# Altium integrated library STMicroelectronics STM32 F3.IntLib: 37 symbols (part 1 of 5)
Pins are listed as number, name and electrical type; pins without a type are passive.

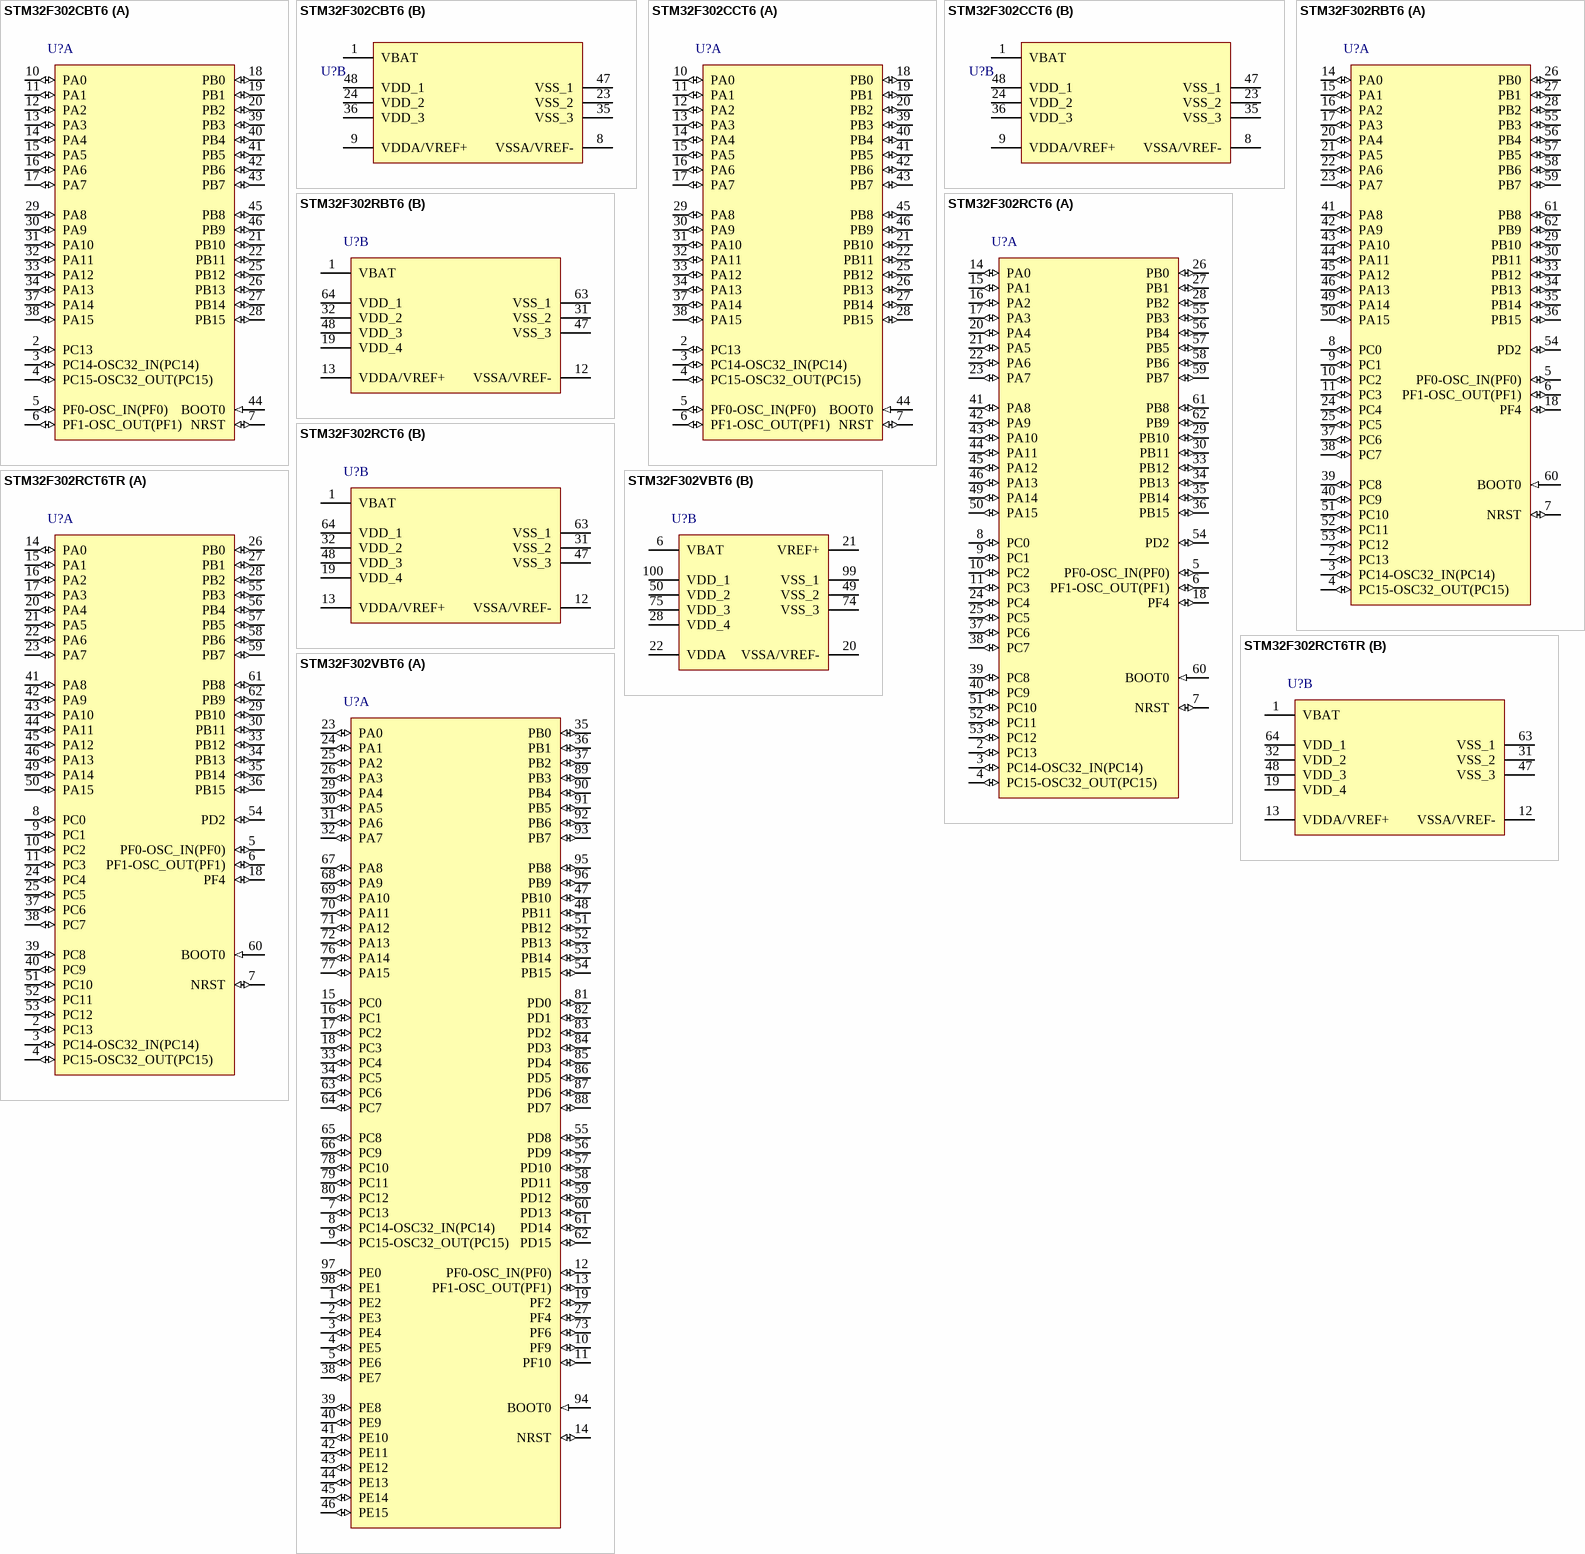
[diagram p0: symbols STM32F302CBT6 to STM32F302VBT6]

## STM32F302CBT6
designator U?
ARM Cortex-M4 32-bit MCU, 128 KB Flash, 24 KB Internal RAM, 37 I/Os, 48-pin LQFP, -40 to 85 degC, Tray
footprint STM-LQFP48_N (QFP, 48-Leads, Body 7x7mm, Pitch 0.5mm, IPC Medium Density)
footprint STM-LQFP48_L (QFP, 48-Leads, Body 7x7mm, Pitch 0.5mm, IPC High Density)
footprint STM-LQFP48_M (QFP, 48-Leads, Body 7x7mm, Pitch 0.5mm, IPC Low Density)
part A pins: 2 PC13 (io) "PC13/TIM1_CH1N/WKUP2,RTC_TAMP1,RTC_TS,RTC_OUT", 3 PC14-OSC32_IN(PC14) (io) "PC14-OSC32_IN(PC14)/OSC32_IN", 4 PC15-OSC32_OUT(PC15) (io) "PC15-OSC32_OUT(PC15)/OSC32_OUT", 5 PF0-OSC_IN(PF0) (io) "PF0-OSC_IN(PF0)/TIM1_CH3N,I2C2_SDA/OSC_IN", 6 PF1-OSC_OUT(PF1) (io) "PF1-OSC_OUT(PF1)/I2C2_SCL/OSC_OUT", 7 NRST (io) "Device reset input / internal reset output (active low)", 10 PA0 (io) "PA0/USART2_CTS,TIM2_CH1_ETR,TSC_G1_IO1,COMP1_OUT,EVENTOUT/ADC1_IN1,COMP1_INM,RTC_TAMP2,WKUP1", 11 PA1 (io) "PA1/USART2_RTS,TIM2_CH2,TSC_G1_IO2,TIM15_CH1N,RTC_REFIN,EVENTOUT/ADC1_IN2,COMP1_INP,OPAMP1_VINP", 12 PA2 (io) "PA2/USART2_TX,TIM2_CH3,TIM15_CH1,TSC_G1_IO3,COMP2_OUT,EVENTOUT/ADC1_IN3,COMP2_INM,OPAMP1_VOUT", 13 PA3 (io) "PA3/USART2_RX,TIM2_CH4,TIM15_CH2,TSC_G1_IO4,EVENTOUT/ADC1_IN4,OPAMP1_VINP,COMP2_INP,OPAMP1_VINM", 14 PA4 (io) "PA4/SPI1_NSS,SPI3_NSS,USART2_CK,TSC_G2_IO1,TIM3_CH2,EVENTOUT/ADC2_IN1,DAC1_OUT1,COMP1_INM,COMP2_INM,COMP4_INM,COMP6_INM", 15 PA5 (io) "PA5/SPI1_SCK,TIM2_CH1_ETR,TSC_G2_IO2,EVENTOUT/ADC2_IN2,OPAMP1_VINP,OPAMP2_VINM,COMP1_INM,COMP2_INM,COMP4_INM,COMP6_INM", 16 PA6 (io) "PA6/SPI1_MISO,TIM3_CH1,TIM1_BKIN,TIM16_CH1,COMP1_OUT,TSC_G2_IO3,EVENTOUT/ADC2_IN3,OPAMP2_VOUT", 17 PA7 (io) "PA7/SPI1_MOSI,TIM3_CH2,TIM17_CH1,TIM1_CH1N,TSC_G2_IO4,COMP2_OUT,EVENTOUT/ADC2_IN4,COMP2_INP,OPAMP2_VINP,OPAMP1_VINP", 18 PB0 (io) "PB0/TIM3_CH3,TIM1_CH2N,TSC_G3_IO2,EVENTOUT/COMP4_INP,OPAMP2_VINP", 19 PB1 (io) "PB1/TIM3_CH4,TIM1_CH3N,COMP4_OUT,TSC_G3_IO3,EVENTOUT", 20 PB2 (io) "PB2/TSC_G3_IO4,EVENTOUT/ADC2_IN12,COMP4_INM", 21 PB10 (io) "PB10/USART3_TX,TIM2_CH3,TSC_SYNC,EVENTOUT", 22 PB11 (io) "PB11/USART3_RX,TIM2_CH4,TSC_G6_IO1,EVENTOUT/COMP6_INP", 25 PB12 (io) "PB12/SPI2_NSS,I2C2_SMBA,USART3_CK,TIM1_BKIN,TSC_G6_IO2,EVENTOUT", 26 PB13 (io) "PB13/SPI2_SCK,USART3_CTS,TIM1_CH1N,TSC_G6_IO3,EVENTOUT", 27 PB14 (io) "PB14/SPI2_MISO,USART3_RTS,TIM1_CH2N,TIM15_CH1,TSC_G6_IO4,EVENTOUT/OPAMP2_VINP", 28 PB15 (io) "PB15/SPI2_MOSI,TIM1_CH3N,RTC_REFIN,TIM15_CH1N,TIM15_CH2,EVENTOUT/COMP6_INM", 29 PA8 (io) "PA8/I2C2_SMBA,USART1_CK,TIM1_CH1,TIM4_ETR,MCO,EVENTOUT", 30 PA9 (io) "PA9/I2C2_SCL,USART1_TX,TIM1_CH2,TIM2_CH3,TIM15_BKIN,TSC_G4_IO1,EVENTOUT", 31 PA10 (io) "PA10/I2C2_SDA,USART1_RX,TIM1_CH3,TIM2_CH4,TIM17_BKIN,TSC_G4_IO2,COMP6_OUT,EVENTOUT", 32 PA11 (io) "PA11/USART1_CTS,USB_DM,CAN_RX,TIM1_CH1N,TIM1_CH4,TIM1_BKIN2,TIM4_CH1,COMP1_OUT,EVENTOUT", 33 PA12 (io) "PA12/USART1_RTS,USB_DP,CAN_TX,TIM1_CH2N,TIM1_ETR,TIM4_CH2,TIM16_CH1,COMP2_OUT,EVENTOUT", 34 PA13 (io) "PA13/USART3_CTS,TIM4_CH3,TIM16_CH1N,TSC_G4_IO3,IR_OUT,SWDIO-JTMS,EVENTOUT", 37 PA14 (io) "PA14/I2C1_SDA,USART2_TX,TIM1_BKIN,TSC_G4_IO4,SWCLK-JTCK,EVENTOUT", 38 PA15 (io) "PA15/I2C1_SCL,SPI1_NSS,SPI3_NSS,JTDI,USART2_RX,TIM1_BKIN,TIM2_CH1_ETR,EVENTOUT", 39 PB3 (io) "PB3/SPI3_SCK,SPI1_SCK,USART2_TX,TIM2_CH2,TIM3_ETR,TIM4_ETR,TSC_G5_IO1,JTDO-TRACESWO,EVENTOUT", 40 PB4 (io) "PB4/SPI3_MISO,SPI1_MISO,USART2_RX,TIM3_CH1,TIM16_CH1,TIM17_BKIN,TSC_G5_IO2,NJTRST,EVENTOUT", 41 PB5 (io) "PB5/SPI3_MOSI,SPI1_MOSI,I2C1_SMBA,USART2_CK,TIM16_BKIN,TIM3_CH2,TIM17_CH1,EVENTOUT", 42 PB6 (io) "PB6/I2C1_SCL,USART1_TX,TIM16_CH1N,TIM4_CH1,TSC_G5_IO3,EVENTOUT", 43 PB7 (io) "PB7/I2C1_SDA,USART1_RX,TIM3_CH4,TIM4_CH2,TIM17_CH1N,TSC_G5_IO4,EVENTOUT", 44 BOOT0 (in) "Boot memory selection", 45 PB8 (io) "PB8/I2C1_SCL,CAN_RX,TIM16_CH1,TIM4_CH3,TIM1_BKIN,TSC_SYNC,COMP1_OUT,EVENTOUT", 46 PB9 (io) "PB9/I2C1_SDA,CAN_TX,TIM17_CH1,TIM4_CH4,IR_OUT,COMP2_OUT,EVENTOUT"
part B pins: 1 VBAT (power) "Backup power supply", 8 VSSA/VREF- (power) "Analog ground/Negative reference voltage", 9 VDDA/VREF+ (power) "Analog power supply/Positive reference voltage", 23 VSS_2 (power) "Digital ground", 24 VDD_2 (power) "Digital power supply", 35 VSS_3 (power) "Ground", 36 VDD_3 (power) "Digital power supply", 47 VSS_1 (power) "Ground", 48 VDD_1 (power) "Digital power supply"

## STM32F302CCT6
designator U?
ARM Cortex-M4 32-bit MCU, 256 KB Flash, 32 KB Internal RAM, 37 I/Os, 48-pin LQFP, -40 to 85 degC, Tray
footprint STM-LQFP48_N (QFP, 48-Leads, Body 7x7mm, Pitch 0.5mm, IPC Medium Density)
footprint STM-LQFP48_L (QFP, 48-Leads, Body 7x7mm, Pitch 0.5mm, IPC High Density)
footprint STM-LQFP48_M (QFP, 48-Leads, Body 7x7mm, Pitch 0.5mm, IPC Low Density)
part A pins: 2 PC13 (io) "PC13/TIM1_CH1N/WKUP2,RTC_TAMP1,RTC_TS,RTC_OUT", 3 PC14-OSC32_IN(PC14) (io) "PC14-OSC32_IN(PC14)/OSC32_IN", 4 PC15-OSC32_OUT(PC15) (io) "PC15-OSC32_OUT(PC15)/OSC32_OUT", 5 PF0-OSC_IN(PF0) (io) "PF0-OSC_IN(PF0)/TIM1_CH3N,I2C2_SDA/OSC_IN", 6 PF1-OSC_OUT(PF1) (io) "PF1-OSC_OUT(PF1)/I2C2_SCL/OSC_OUT", 7 NRST (io) "Device reset input / internal reset output (active low)", 10 PA0 (io) "PA0/USART2_CTS,TIM2_CH1_ETR,TSC_G1_IO1,COMP1_OUT,EVENTOUT/ADC1_IN1,COMP1_INM,RTC_TAMP2,WKUP1", 11 PA1 (io) "PA1/USART2_RTS,TIM2_CH2,TSC_G1_IO2,TIM15_CH1N,RTC_REFIN,EVENTOUT/ADC1_IN2,COMP1_INP,OPAMP1_VINP", 12 PA2 (io) "PA2/USART2_TX,TIM2_CH3,TIM15_CH1,TSC_G1_IO3,COMP2_OUT,EVENTOUT/ADC1_IN3,COMP2_INM,OPAMP1_VOUT", 13 PA3 (io) "PA3/USART2_RX,TIM2_CH4,TIM15_CH2,TSC_G1_IO4,EVENTOUT/ADC1_IN4,OPAMP1_VINP,COMP2_INP,OPAMP1_VINM", 14 PA4 (io) "PA4/SPI1_NSS,SPI3_NSS,USART2_CK,TSC_G2_IO1,TIM3_CH2,EVENTOUT/ADC2_IN1,DAC1_OUT1,COMP1_INM,COMP2_INM,COMP4_INM,COMP6_INM", 15 PA5 (io) "PA5/SPI1_SCK,TIM2_CH1_ETR,TSC_G2_IO2,EVENTOUT/ADC2_IN2,OPAMP1_VINP,OPAMP2_VINM,COMP1_INM,COMP2_INM,COMP4_INM,COMP6_INM", 16 PA6 (io) "PA6/SPI1_MISO,TIM3_CH1,TIM1_BKIN,TIM16_CH1,COMP1_OUT,TSC_G2_IO3,EVENTOUT/ADC2_IN3,OPAMP2_VOUT", 17 PA7 (io) "PA7/SPI1_MOSI,TIM3_CH2,TIM17_CH1,TIM1_CH1N,TSC_G2_IO4,COMP2_OUT,EVENTOUT/ADC2_IN4,COMP2_INP,OPAMP2_VINP,OPAMP1_VINP", 18 PB0 (io) "PB0/TIM3_CH3,TIM1_CH2N,TSC_G3_IO2,EVENTOUT/COMP4_INP,OPAMP2_VINP", 19 PB1 (io) "PB1/TIM3_CH4,TIM1_CH3N,COMP4_OUT,TSC_G3_IO3,EVENTOUT", 20 PB2 (io) "PB2/TSC_G3_IO4,EVENTOUT/ADC2_IN12,COMP4_INM", 21 PB10 (io) "PB10/USART3_TX,TIM2_CH3,TSC_SYNC,EVENTOUT", 22 PB11 (io) "PB11/USART3_RX,TIM2_CH4,TSC_G6_IO1,EVENTOUT/COMP6_INP", 25 PB12 (io) "PB12/SPI2_NSS,I2C2_SMBA,USART3_CK,TIM1_BKIN,TSC_G6_IO2,EVENTOUT", 26 PB13 (io) "PB13/SPI2_SCK,USART3_CTS,TIM1_CH1N,TSC_G6_IO3,EVENTOUT", 27 PB14 (io) "PB14/SPI2_MISO,USART3_RTS,TIM1_CH2N,TIM15_CH1,TSC_G6_IO4,EVENTOUT/OPAMP2_VINP", 28 PB15 (io) "PB15/SPI2_MOSI,TIM1_CH3N,RTC_REFIN,TIM15_CH1N,TIM15_CH2,EVENTOUT/COMP6_INM", 29 PA8 (io) "PA8/I2C2_SMBA,USART1_CK,TIM1_CH1,TIM4_ETR,MCO,EVENTOUT", 30 PA9 (io) "PA9/I2C2_SCL,USART1_TX,TIM1_CH2,TIM2_CH3,TIM15_BKIN,TSC_G4_IO1,EVENTOUT", 31 PA10 (io) "PA10/I2C2_SDA,USART1_RX,TIM1_CH3,TIM2_CH4,TIM17_BKIN,TSC_G4_IO2,COMP6_OUT,EVENTOUT", 32 PA11 (io) "PA11/USART1_CTS,USB_DM,CAN_RX,TIM1_CH1N,TIM1_CH4,TIM1_BKIN2,TIM4_CH1,COMP1_OUT,EVENTOUT", 33 PA12 (io) "PA12/USART1_RTS,USB_DP,CAN_TX,TIM1_CH2N,TIM1_ETR,TIM4_CH2,TIM16_CH1,COMP2_OUT,EVENTOUT", 34 PA13 (io) "PA13/USART3_CTS,TIM4_CH3,TIM16_CH1N,TSC_G4_IO3,IR_OUT,SWDIO-JTMS,EVENTOUT", 37 PA14 (io) "PA14/I2C1_SDA,USART2_TX,TIM1_BKIN,TSC_G4_IO4,SWCLK-JTCK,EVENTOUT", 38 PA15 (io) "PA15/I2C1_SCL,SPI1_NSS,SPI3_NSS,JTDI,USART2_RX,TIM1_BKIN,TIM2_CH1_ETR,EVENTOUT", 39 PB3 (io) "PB3/SPI3_SCK,SPI1_SCK,USART2_TX,TIM2_CH2,TIM3_ETR,TIM4_ETR,TSC_G5_IO1,JTDO-TRACESWO,EVENTOUT", 40 PB4 (io) "PB4/SPI3_MISO,SPI1_MISO,USART2_RX,TIM3_CH1,TIM16_CH1,TIM17_BKIN,TSC_G5_IO2,NJTRST,EVENTOUT", 41 PB5 (io) "PB5/SPI3_MOSI,SPI1_MOSI,I2C1_SMBA,USART2_CK,TIM16_BKIN,TIM3_CH2,TIM17_CH1,EVENTOUT", 42 PB6 (io) "PB6/I2C1_SCL,USART1_TX,TIM16_CH1N,TIM4_CH1,TSC_G5_IO3,EVENTOUT", 43 PB7 (io) "PB7/I2C1_SDA,USART1_RX,TIM3_CH4,TIM4_CH2,TIM17_CH1N,TSC_G5_IO4,EVENTOUT", 44 BOOT0 (in) "Boot memory selection", 45 PB8 (io) "PB8/I2C1_SCL,CAN_RX,TIM16_CH1,TIM4_CH3,TIM1_BKIN,TSC_SYNC,COMP1_OUT,EVENTOUT", 46 PB9 (io) "PB9/I2C1_SDA,CAN_TX,TIM17_CH1,TIM4_CH4,IR_OUT,COMP2_OUT,EVENTOUT"
part B pins: 1 VBAT (power) "Backup power supply", 8 VSSA/VREF- (power) "Analog ground/Negative reference voltage", 9 VDDA/VREF+ (power) "Analog power supply/Positive reference voltage", 23 VSS_2 (power) "Digital ground", 24 VDD_2 (power) "Digital power supply", 35 VSS_3 (power) "Ground", 36 VDD_3 (power) "Digital power supply", 47 VSS_1 (power) "Ground", 48 VDD_1 (power) "Digital power supply"

## STM32F302RBT6
designator U?
ARM Cortex-M4 32-bit MCU, 128 KB Flash, 24 KB Internal RAM, 52 I/Os, 64-pin LQFP, -40 to 85 degC, Tray
footprint STM-LQFP64_N (Thin QFP, 64-Leads, Body 10x10mm, Pitch 0.5mm, IPC Medium Density)
footprint STM-LQFP64_L (Thin QFP, 64-Leads, Body 10x10mm, Pitch 0.5mm, IPC High Density)
footprint STM-LQFP64_M (Thin QFP, 64-Leads, Body 10x10mm, Pitch 0.5mm, IPC Low Density)
footprint STM-LQFP64_V (Thin QFP, 64-Leads, Body 10x10mm, Pitch 0.5mm, ST Recommended)
part A pins: 2 PC13 (io) "PC13/TIM1_CH1N/WKUP2,RTC_TAMP1,RTC_TS,RTC_OUT", 3 PC14-OSC32_IN(PC14) (io) "PC14-OSC32_IN(PC14)/OSC32_IN", 4 PC15-OSC32_OUT(PC15) (io) "PC15-OSC32_OUT(PC15)/OSC32_OUT", 5 PF0-OSC_IN(PF0) (io) "PF0-OSC_IN(PF0)/TIM1_CH3N,I2C2_SDA/OSC_IN", 6 PF1-OSC_OUT(PF1) (io) "PF1-OSC_OUT(PF1)/I2C2_SCL/OSC_OUT", 7 NRST (io) "Device reset input / internal reset output (active low)", 8 PC0 (io) "PC0/EVENTOUT/ADC12_IN6", 9 PC1 (io) "PC1/EVENTOUT/ADC12_IN7", 10 PC2 (io) "PC2/EVENTOUT/ADC12_IN8", 11 PC3 (io) "PC3/TIM1_BKIN2,EVENTOUT/ADC12_IN9", 14 PA0 (io) "PA0/USART2_CTS,TIM2_CH1_ETR,TSC_G1_IO1,COMP1_OUT,EVENTOUT/ADC1_IN1,COMP1_INM,RTC_TAMP2,WKUP1", 15 PA1 (io) "PA1/USART2_RTS,TIM2_CH2,TSC_G1_IO2,TIM15_CH1N,RTC_REFIN,EVENTOUT/ADC1_IN2,COMP1_INP,OPAMP1_VINP", 16 PA2 (io) "PA2/USART2_TX,TIM2_CH3,TIM15_CH1,TSC_G1_IO3,COMP2_OUT,EVENTOUT/ADC1_IN3,COMP2_INM,OPAMP1_VOUT", 17 PA3 (io) "PA3/USART2_RX,TIM2_CH4,TIM15_CH2,TSC_G1_IO4,EVENTOUT/ADC1_IN4,OPAMP1_VINP,COMP2_INP,OPAMP1_VINM", 18 PF4 (io) "PF4/COMP1_OUT,EVENTOUT/ADC1_IN5", 20 PA4 (io) "PA4/SPI1_NSS,SPI3_NSS,USART2_CK,TSC_G2_IO1,TIM3_CH2,EVENTOUT/ADC2_IN1,DAC1_OUT1,COMP1_INM,COMP2_INM,COMP4_INM,COMP6_INM", 21 PA5 (io) "PA5/SPI1_SCK,TIM2_CH1_ETR,TSC_G2_IO2,EVENTOUT/ADC2_IN2,OPAMP1_VINP,OPAMP2_VINM,COMP1_INM,COMP2_INM,COMP4_INM,COMP6_INM", 22 PA6 (io) "PA6/SPI1_MISO,TIM3_CH1,TIM1_BKIN,TIM16_CH1,COMP1_OUT,TSC_G2_IO3,EVENTOUT/ADC2_IN3,OPAMP2_VOUT", 23 PA7 (io) "PA7/SPI1_MOSI,TIM3_CH2,TIM17_CH1,TIM1_CH1N,TSC_G2_IO4,COMP2_OUT,EVENTOUT/ADC2_IN4,COMP2_INP,OPAMP2_VINP,OPAMP1_VINP", 24 PC4 (io) "PC4/USART1_TX,EVENTOUT/ADC2_IN5", 25 PC5 (io) "PC5/USART1_RX,TSC_G3_IO1,EVENTOUT/ADC2_IN11,OPAMP2_VINM,OPAMP1_VINM", 26 PB0 (io) "PB0/TIM3_CH3,TIM1_CH2N,TSC_G3_IO2,EVENTOUT/COMP4_INP,OPAMP2_VINP", 27 PB1 (io) "PB1/TIM3_CH4,TIM1_CH3N,COMP4_OUT,TSC_G3_IO3,EVENTOUT", 28 PB2 (io) "PB2/TSC_G3_IO4,EVENTOUT/ADC2_IN12,COMP4_INM", 29 PB10 (io) "PB10/USART3_TX,TIM2_CH3,TSC_SYNC,EVENTOUT", 30 PB11 (io) "PB11/USART3_RX,TIM2_CH4,TSC_G6_IO1,EVENTOUT/COMP6_INP", 33 PB12 (io) "PB12/SPI2_NSS,I2C2_SMBA,USART3_CK,TIM1_BKIN,TSC_G6_IO2,EVENTOUT", 34 PB13 (io) "PB13/SPI2_SCK,USART3_CTS,TIM1_CH1N,TSC_G6_IO3,EVENTOUT", 35 PB14 (io) "PB14/SPI2_MISO,USART3_RTS,TIM1_CH2N,TIM15_CH1,TSC_G6_IO4,EVENTOUT/OPAMP2_VINP", 36 PB15 (io) "PB15/SPI2_MOSI,TIM1_CH3N,RTC_REFIN,TIM15_CH1N,TIM15_CH2,EVENTOUT/COMP6_INM", 37 PC6 (io) "PC6/COMP6_OUT,TIM3_CH1,EVENTOUT", 38 PC7 (io) "PC7/TIM3_CH2,EVENTOUT", 39 PC8 (io) "PC8/TIM3_CH3,EVENTOUT", 40 PC9 (io) "PC9/TIM3_CH4,EVENTOUT", 41 PA8 (io) "PA8/I2C2_SMBA,USART1_CK,TIM1_CH1,TIM4_ETR,MCO,EVENTOUT", 42 PA9 (io) "PA9/I2C2_SCL,USART1_TX,TIM1_CH2,TIM2_CH3,TIM15_BKIN,TSC_G4_IO1,EVENTOUT", 43 PA10 (io) "PA10/I2C2_SDA,USART1_RX,TIM1_CH3,TIM2_CH4,TIM17_BKIN,TSC_G4_IO2,COMP6_OUT,EVENTOUT", 44 PA11 (io) "PA11/USART1_CTS,USB_DM,CAN_RX,TIM1_CH1N,TIM1_CH4,TIM1_BKIN2,TIM4_CH1,COMP1_OUT,EVENTOUT", 45 PA12 (io) "PA12/USART1_RTS,USB_DP,CAN_TX,TIM1_CH2N,TIM1_ETR,TIM4_CH2,TIM16_CH1,COMP2_OUT,EVENTOUT", 46 PA13 (io) "PA13/USART3_CTS,TIM4_CH3,TIM16_CH1N,TSC_G4_IO3,IR_OUT,SWDIO-JTMS,EVENTOUT", 49 PA14 (io) "PA14/I2C1_SDA,USART2_TX,TIM1_BKIN,TSC_G4_IO4,SWCLK-JTCK,EVENTOUT", 50 PA15 (io) "PA15/I2C1_SCL,SPI1_NSS,SPI3_NSS,JTDI,USART2_RX,TIM1_BKIN,TIM2_CH1_ETR,EVENTOUT", 51 PC10 (io) "PC10/SPI3_SCK,USART3_TX,UART4_TX,EVENTOUT", 52 PC11 (io) "PC11/SPI3_MISO,USART3_RX,UART4_RX,EVENTOUT", 53 PC12 (io) "PC12/SPI3_MOSI,USART3_CK,UART5_TX,EVENTOUT", 54 PD2 (io) "PD2/UART5_RX,TIM3_ETR,EVENTOUT", 55 PB3 (io) "PB3/SPI3_SCK,SPI1_SCK,USART2_TX,TIM2_CH2,TIM3_ETR,TIM4_ETR,TSC_G5_IO1,JTDO-TRACESWO,EVENTOUT", 56 PB4 (io) "PB4/SPI3_MISO,SPI1_MISO,USART2_RX,TIM3_CH1,TIM16_CH1,TIM17_BKIN,TSC_G5_IO2,NJTRST,EVENTOUT", 57 PB5 (io) "PB5/SPI3_MOSI,SPI1_MOSI,I2C1_SMBA,USART2_CK,TIM16_BKIN,TIM3_CH2,TIM17_CH1,EVENTOUT", 58 PB6 (io) "PB6/I2C1_SCL,USART1_TX,TIM16_CH1N,TIM4_CH1,TSC_G5_IO3,EVENTOUT", 59 PB7 (io) "PB7/I2C1_SDA,USART1_RX,TIM3_CH4,TIM4_CH2,TIM17_CH1N,TSC_G5_IO4,EVENTOUT", 60 BOOT0 (in) "Boot memory selection", 61 PB8 (io) "PB8/I2C1_SCL,CAN_RX,TIM16_CH1,TIM4_CH3,TIM1_BKIN,TSC_SYNC,COMP1_OUT,EVENTOUT", 62 PB9 (io) "PB9/I2C1_SDA,CAN_TX,TIM17_CH1,TIM4_CH4,IR_OUT,COMP2_OUT,EVENTOUT"
part B pins: 1 VBAT (power) "Backup power supply", 12 VSSA/VREF- (power) "Analog ground/Negative reference voltage", 13 VDDA/VREF+ (power) "Analog power supply/Positive reference voltage", 19 VDD_4 (power) "Digital power supply", 31 VSS_2 (power) "Digital ground", 32 VDD_2 (power) "Digital power supply", 47 VSS_3 (power) "Ground", 48 VDD_3 (power) "Digital power supply", 63 VSS_1 (power) "Ground", 64 VDD_1 (power) "Digital power supply"

## STM32F302RCT6
designator U?
ARM Cortex-M4 32-bit MCU, 256 KB Flash, 32 KB Internal RAM, 52 I/Os, 64-pin LQFP, -40 to 85 degC, Tray
footprint STM-LQFP64_N (Thin QFP, 64-Leads, Body 10x10mm, Pitch 0.5mm, IPC Medium Density)
footprint STM-LQFP64_L (Thin QFP, 64-Leads, Body 10x10mm, Pitch 0.5mm, IPC High Density)
footprint STM-LQFP64_M (Thin QFP, 64-Leads, Body 10x10mm, Pitch 0.5mm, IPC Low Density)
footprint STM-LQFP64_V (Thin QFP, 64-Leads, Body 10x10mm, Pitch 0.5mm, ST Recommended)
part A pins: 2 PC13 (io) "PC13/TIM1_CH1N/WKUP2,RTC_TAMP1,RTC_TS,RTC_OUT", 3 PC14-OSC32_IN(PC14) (io) "PC14-OSC32_IN(PC14)/OSC32_IN", 4 PC15-OSC32_OUT(PC15) (io) "PC15-OSC32_OUT(PC15)/OSC32_OUT", 5 PF0-OSC_IN(PF0) (io) "PF0-OSC_IN(PF0)/TIM1_CH3N,I2C2_SDA/OSC_IN", 6 PF1-OSC_OUT(PF1) (io) "PF1-OSC_OUT(PF1)/I2C2_SCL/OSC_OUT", 7 NRST (io) "Device reset input / internal reset output (active low)", 8 PC0 (io) "PC0/EVENTOUT/ADC12_IN6", 9 PC1 (io) "PC1/EVENTOUT/ADC12_IN7", 10 PC2 (io) "PC2/EVENTOUT/ADC12_IN8", 11 PC3 (io) "PC3/TIM1_BKIN2,EVENTOUT/ADC12_IN9", 14 PA0 (io) "PA0/USART2_CTS,TIM2_CH1_ETR,TSC_G1_IO1,COMP1_OUT,EVENTOUT/ADC1_IN1,COMP1_INM,RTC_TAMP2,WKUP1", 15 PA1 (io) "PA1/USART2_RTS,TIM2_CH2,TSC_G1_IO2,TIM15_CH1N,RTC_REFIN,EVENTOUT/ADC1_IN2,COMP1_INP,OPAMP1_VINP", 16 PA2 (io) "PA2/USART2_TX,TIM2_CH3,TIM15_CH1,TSC_G1_IO3,COMP2_OUT,EVENTOUT/ADC1_IN3,COMP2_INM,OPAMP1_VOUT", 17 PA3 (io) "PA3/USART2_RX,TIM2_CH4,TIM15_CH2,TSC_G1_IO4,EVENTOUT/ADC1_IN4,OPAMP1_VINP,COMP2_INP,OPAMP1_VINM", 18 PF4 (io) "PF4/COMP1_OUT,EVENTOUT/ADC1_IN5", 20 PA4 (io) "PA4/SPI1_NSS,SPI3_NSS,USART2_CK,TSC_G2_IO1,TIM3_CH2,EVENTOUT/ADC2_IN1,DAC1_OUT1,COMP1_INM,COMP2_INM,COMP4_INM,COMP6_INM", 21 PA5 (io) "PA5/SPI1_SCK,TIM2_CH1_ETR,TSC_G2_IO2,EVENTOUT/ADC2_IN2,OPAMP1_VINP,OPAMP2_VINM,COMP1_INM,COMP2_INM,COMP4_INM,COMP6_INM", 22 PA6 (io) "PA6/SPI1_MISO,TIM3_CH1,TIM1_BKIN,TIM16_CH1,COMP1_OUT,TSC_G2_IO3,EVENTOUT/ADC2_IN3,OPAMP2_VOUT", 23 PA7 (io) "PA7/SPI1_MOSI,TIM3_CH2,TIM17_CH1,TIM1_CH1N,TSC_G2_IO4,COMP2_OUT,EVENTOUT/ADC2_IN4,COMP2_INP,OPAMP2_VINP,OPAMP1_VINP", 24 PC4 (io) "PC4/USART1_TX,EVENTOUT/ADC2_IN5", 25 PC5 (io) "PC5/USART1_RX,TSC_G3_IO1,EVENTOUT/ADC2_IN11,OPAMP2_VINM,OPAMP1_VINM", 26 PB0 (io) "PB0/TIM3_CH3,TIM1_CH2N,TSC_G3_IO2,EVENTOUT/COMP4_INP,OPAMP2_VINP", 27 PB1 (io) "PB1/TIM3_CH4,TIM1_CH3N,COMP4_OUT,TSC_G3_IO3,EVENTOUT", 28 PB2 (io) "PB2/TSC_G3_IO4,EVENTOUT/ADC2_IN12,COMP4_INM", 29 PB10 (io) "PB10/USART3_TX,TIM2_CH3,TSC_SYNC,EVENTOUT", 30 PB11 (io) "PB11/USART3_RX,TIM2_CH4,TSC_G6_IO1,EVENTOUT/COMP6_INP", 33 PB12 (io) "PB12/SPI2_NSS,I2C2_SMBA,USART3_CK,TIM1_BKIN,TSC_G6_IO2,EVENTOUT", 34 PB13 (io) "PB13/SPI2_SCK,USART3_CTS,TIM1_CH1N,TSC_G6_IO3,EVENTOUT", 35 PB14 (io) "PB14/SPI2_MISO,USART3_RTS,TIM1_CH2N,TIM15_CH1,TSC_G6_IO4,EVENTOUT/OPAMP2_VINP", 36 PB15 (io) "PB15/SPI2_MOSI,TIM1_CH3N,RTC_REFIN,TIM15_CH1N,TIM15_CH2,EVENTOUT/COMP6_INM", 37 PC6 (io) "PC6/COMP6_OUT,TIM3_CH1,EVENTOUT", 38 PC7 (io) "PC7/TIM3_CH2,EVENTOUT", 39 PC8 (io) "PC8/TIM3_CH3,EVENTOUT", 40 PC9 (io) "PC9/TIM3_CH4,EVENTOUT", 41 PA8 (io) "PA8/I2C2_SMBA,USART1_CK,TIM1_CH1,TIM4_ETR,MCO,EVENTOUT", 42 PA9 (io) "PA9/I2C2_SCL,USART1_TX,TIM1_CH2,TIM2_CH3,TIM15_BKIN,TSC_G4_IO1,EVENTOUT", 43 PA10 (io) "PA10/I2C2_SDA,USART1_RX,TIM1_CH3,TIM2_CH4,TIM17_BKIN,TSC_G4_IO2,COMP6_OUT,EVENTOUT", 44 PA11 (io) "PA11/USART1_CTS,USB_DM,CAN_RX,TIM1_CH1N,TIM1_CH4,TIM1_BKIN2,TIM4_CH1,COMP1_OUT,EVENTOUT", 45 PA12 (io) "PA12/USART1_RTS,USB_DP,CAN_TX,TIM1_CH2N,TIM1_ETR,TIM4_CH2,TIM16_CH1,COMP2_OUT,EVENTOUT", 46 PA13 (io) "PA13/USART3_CTS,TIM4_CH3,TIM16_CH1N,TSC_G4_IO3,IR_OUT,SWDIO-JTMS,EVENTOUT", 49 PA14 (io) "PA14/I2C1_SDA,USART2_TX,TIM1_BKIN,TSC_G4_IO4,SWCLK-JTCK,EVENTOUT", 50 PA15 (io) "PA15/I2C1_SCL,SPI1_NSS,SPI3_NSS,JTDI,USART2_RX,TIM1_BKIN,TIM2_CH1_ETR,EVENTOUT", 51 PC10 (io) "PC10/SPI3_SCK,USART3_TX,UART4_TX,EVENTOUT", 52 PC11 (io) "PC11/SPI3_MISO,USART3_RX,UART4_RX,EVENTOUT", 53 PC12 (io) "PC12/SPI3_MOSI,USART3_CK,UART5_TX,EVENTOUT", 54 PD2 (io) "PD2/UART5_RX,TIM3_ETR,EVENTOUT", 55 PB3 (io) "PB3/SPI3_SCK,SPI1_SCK,USART2_TX,TIM2_CH2,TIM3_ETR,TIM4_ETR,TSC_G5_IO1,JTDO-TRACESWO,EVENTOUT", 56 PB4 (io) "PB4/SPI3_MISO,SPI1_MISO,USART2_RX,TIM3_CH1,TIM16_CH1,TIM17_BKIN,TSC_G5_IO2,NJTRST,EVENTOUT", 57 PB5 (io) "PB5/SPI3_MOSI,SPI1_MOSI,I2C1_SMBA,USART2_CK,TIM16_BKIN,TIM3_CH2,TIM17_CH1,EVENTOUT", 58 PB6 (io) "PB6/I2C1_SCL,USART1_TX,TIM16_CH1N,TIM4_CH1,TSC_G5_IO3,EVENTOUT", 59 PB7 (io) "PB7/I2C1_SDA,USART1_RX,TIM3_CH4,TIM4_CH2,TIM17_CH1N,TSC_G5_IO4,EVENTOUT", 60 BOOT0 (in) "Boot memory selection", 61 PB8 (io) "PB8/I2C1_SCL,CAN_RX,TIM16_CH1,TIM4_CH3,TIM1_BKIN,TSC_SYNC,COMP1_OUT,EVENTOUT", 62 PB9 (io) "PB9/I2C1_SDA,CAN_TX,TIM17_CH1,TIM4_CH4,IR_OUT,COMP2_OUT,EVENTOUT"
part B pins: 1 VBAT (power) "Backup power supply", 12 VSSA/VREF- (power) "Analog ground/Negative reference voltage", 13 VDDA/VREF+ (power) "Analog power supply/Positive reference voltage", 19 VDD_4 (power) "Digital power supply", 31 VSS_2 (power) "Digital ground", 32 VDD_2 (power) "Digital power supply", 47 VSS_3 (power) "Ground", 48 VDD_3 (power) "Digital power supply", 63 VSS_1 (power) "Ground", 64 VDD_1 (power) "Digital power supply"

## STM32F302RCT6TR
designator U?
ARM Cortex-M4 32-bit MCU, 256 KB Flash, 32 KB Internal RAM, 52 I/Os, 64-pin LQFP, -40 to 85 degC, Tape and Reel
footprint STM-LQFP64_N (Thin QFP, 64-Leads, Body 10x10mm, Pitch 0.5mm, IPC Medium Density)
footprint STM-LQFP64_L (Thin QFP, 64-Leads, Body 10x10mm, Pitch 0.5mm, IPC High Density)
footprint STM-LQFP64_M (Thin QFP, 64-Leads, Body 10x10mm, Pitch 0.5mm, IPC Low Density)
footprint STM-LQFP64_V (Thin QFP, 64-Leads, Body 10x10mm, Pitch 0.5mm, ST Recommended)
part A pins: 2 PC13 (io) "PC13/TIM1_CH1N/WKUP2,RTC_TAMP1,RTC_TS,RTC_OUT", 3 PC14-OSC32_IN(PC14) (io) "PC14-OSC32_IN(PC14)/OSC32_IN", 4 PC15-OSC32_OUT(PC15) (io) "PC15-OSC32_OUT(PC15)/OSC32_OUT", 5 PF0-OSC_IN(PF0) (io) "PF0-OSC_IN(PF0)/TIM1_CH3N,I2C2_SDA/OSC_IN", 6 PF1-OSC_OUT(PF1) (io) "PF1-OSC_OUT(PF1)/I2C2_SCL/OSC_OUT", 7 NRST (io) "Device reset input / internal reset output (active low)", 8 PC0 (io) "PC0/EVENTOUT/ADC12_IN6", 9 PC1 (io) "PC1/EVENTOUT/ADC12_IN7", 10 PC2 (io) "PC2/EVENTOUT/ADC12_IN8", 11 PC3 (io) "PC3/TIM1_BKIN2,EVENTOUT/ADC12_IN9", 14 PA0 (io) "PA0/USART2_CTS,TIM2_CH1_ETR,TSC_G1_IO1,COMP1_OUT,EVENTOUT/ADC1_IN1,COMP1_INM,RTC_TAMP2,WKUP1", 15 PA1 (io) "PA1/USART2_RTS,TIM2_CH2,TSC_G1_IO2,TIM15_CH1N,RTC_REFIN,EVENTOUT/ADC1_IN2,COMP1_INP,OPAMP1_VINP", 16 PA2 (io) "PA2/USART2_TX,TIM2_CH3,TIM15_CH1,TSC_G1_IO3,COMP2_OUT,EVENTOUT/ADC1_IN3,COMP2_INM,OPAMP1_VOUT", 17 PA3 (io) "PA3/USART2_RX,TIM2_CH4,TIM15_CH2,TSC_G1_IO4,EVENTOUT/ADC1_IN4,OPAMP1_VINP,COMP2_INP,OPAMP1_VINM", 18 PF4 (io) "PF4/COMP1_OUT,EVENTOUT/ADC1_IN5", 20 PA4 (io) "PA4/SPI1_NSS,SPI3_NSS,USART2_CK,TSC_G2_IO1,TIM3_CH2,EVENTOUT/ADC2_IN1,DAC1_OUT1,COMP1_INM,COMP2_INM,COMP4_INM,COMP6_INM", 21 PA5 (io) "PA5/SPI1_SCK,TIM2_CH1_ETR,TSC_G2_IO2,EVENTOUT/ADC2_IN2,OPAMP1_VINP,OPAMP2_VINM,COMP1_INM,COMP2_INM,COMP4_INM,COMP6_INM", 22 PA6 (io) "PA6/SPI1_MISO,TIM3_CH1,TIM1_BKIN,TIM16_CH1,COMP1_OUT,TSC_G2_IO3,EVENTOUT/ADC2_IN3,OPAMP2_VOUT", 23 PA7 (io) "PA7/SPI1_MOSI,TIM3_CH2,TIM17_CH1,TIM1_CH1N,TSC_G2_IO4,COMP2_OUT,EVENTOUT/ADC2_IN4,COMP2_INP,OPAMP2_VINP,OPAMP1_VINP", 24 PC4 (io) "PC4/USART1_TX,EVENTOUT/ADC2_IN5", 25 PC5 (io) "PC5/USART1_RX,TSC_G3_IO1,EVENTOUT/ADC2_IN11,OPAMP2_VINM,OPAMP1_VINM", 26 PB0 (io) "PB0/TIM3_CH3,TIM1_CH2N,TSC_G3_IO2,EVENTOUT/COMP4_INP,OPAMP2_VINP", 27 PB1 (io) "PB1/TIM3_CH4,TIM1_CH3N,COMP4_OUT,TSC_G3_IO3,EVENTOUT", 28 PB2 (io) "PB2/TSC_G3_IO4,EVENTOUT/ADC2_IN12,COMP4_INM", 29 PB10 (io) "PB10/USART3_TX,TIM2_CH3,TSC_SYNC,EVENTOUT", 30 PB11 (io) "PB11/USART3_RX,TIM2_CH4,TSC_G6_IO1,EVENTOUT/COMP6_INP", 33 PB12 (io) "PB12/SPI2_NSS,I2C2_SMBA,USART3_CK,TIM1_BKIN,TSC_G6_IO2,EVENTOUT", 34 PB13 (io) "PB13/SPI2_SCK,USART3_CTS,TIM1_CH1N,TSC_G6_IO3,EVENTOUT", 35 PB14 (io) "PB14/SPI2_MISO,USART3_RTS,TIM1_CH2N,TIM15_CH1,TSC_G6_IO4,EVENTOUT/OPAMP2_VINP", 36 PB15 (io) "PB15/SPI2_MOSI,TIM1_CH3N,RTC_REFIN,TIM15_CH1N,TIM15_CH2,EVENTOUT/COMP6_INM", 37 PC6 (io) "PC6/COMP6_OUT,TIM3_CH1,EVENTOUT", 38 PC7 (io) "PC7/TIM3_CH2,EVENTOUT", 39 PC8 (io) "PC8/TIM3_CH3,EVENTOUT", 40 PC9 (io) "PC9/TIM3_CH4,EVENTOUT", 41 PA8 (io) "PA8/I2C2_SMBA,USART1_CK,TIM1_CH1,TIM4_ETR,MCO,EVENTOUT", 42 PA9 (io) "PA9/I2C2_SCL,USART1_TX,TIM1_CH2,TIM2_CH3,TIM15_BKIN,TSC_G4_IO1,EVENTOUT", 43 PA10 (io) "PA10/I2C2_SDA,USART1_RX,TIM1_CH3,TIM2_CH4,TIM17_BKIN,TSC_G4_IO2,COMP6_OUT,EVENTOUT", 44 PA11 (io) "PA11/USART1_CTS,USB_DM,CAN_RX,TIM1_CH1N,TIM1_CH4,TIM1_BKIN2,TIM4_CH1,COMP1_OUT,EVENTOUT", 45 PA12 (io) "PA12/USART1_RTS,USB_DP,CAN_TX,TIM1_CH2N,TIM1_ETR,TIM4_CH2,TIM16_CH1,COMP2_OUT,EVENTOUT", 46 PA13 (io) "PA13/USART3_CTS,TIM4_CH3,TIM16_CH1N,TSC_G4_IO3,IR_OUT,SWDIO-JTMS,EVENTOUT", 49 PA14 (io) "PA14/I2C1_SDA,USART2_TX,TIM1_BKIN,TSC_G4_IO4,SWCLK-JTCK,EVENTOUT", 50 PA15 (io) "PA15/I2C1_SCL,SPI1_NSS,SPI3_NSS,JTDI,USART2_RX,TIM1_BKIN,TIM2_CH1_ETR,EVENTOUT", 51 PC10 (io) "PC10/SPI3_SCK,USART3_TX,UART4_TX,EVENTOUT", 52 PC11 (io) "PC11/SPI3_MISO,USART3_RX,UART4_RX,EVENTOUT", 53 PC12 (io) "PC12/SPI3_MOSI,USART3_CK,UART5_TX,EVENTOUT", 54 PD2 (io) "PD2/UART5_RX,TIM3_ETR,EVENTOUT", 55 PB3 (io) "PB3/SPI3_SCK,SPI1_SCK,USART2_TX,TIM2_CH2,TIM3_ETR,TIM4_ETR,TSC_G5_IO1,JTDO-TRACESWO,EVENTOUT", 56 PB4 (io) "PB4/SPI3_MISO,SPI1_MISO,USART2_RX,TIM3_CH1,TIM16_CH1,TIM17_BKIN,TSC_G5_IO2,NJTRST,EVENTOUT", 57 PB5 (io) "PB5/SPI3_MOSI,SPI1_MOSI,I2C1_SMBA,USART2_CK,TIM16_BKIN,TIM3_CH2,TIM17_CH1,EVENTOUT", 58 PB6 (io) "PB6/I2C1_SCL,USART1_TX,TIM16_CH1N,TIM4_CH1,TSC_G5_IO3,EVENTOUT", 59 PB7 (io) "PB7/I2C1_SDA,USART1_RX,TIM3_CH4,TIM4_CH2,TIM17_CH1N,TSC_G5_IO4,EVENTOUT", 60 BOOT0 (in) "Boot memory selection", 61 PB8 (io) "PB8/I2C1_SCL,CAN_RX,TIM16_CH1,TIM4_CH3,TIM1_BKIN,TSC_SYNC,COMP1_OUT,EVENTOUT", 62 PB9 (io) "PB9/I2C1_SDA,CAN_TX,TIM17_CH1,TIM4_CH4,IR_OUT,COMP2_OUT,EVENTOUT"
part B pins: 1 VBAT (power) "Backup power supply", 12 VSSA/VREF- (power) "Analog ground/Negative reference voltage", 13 VDDA/VREF+ (power) "Analog power supply/Positive reference voltage", 19 VDD_4 (power) "Digital power supply", 31 VSS_2 (power) "Digital ground", 32 VDD_2 (power) "Digital power supply", 47 VSS_3 (power) "Ground", 48 VDD_3 (power) "Digital power supply", 63 VSS_1 (power) "Ground", 64 VDD_1 (power) "Digital power supply"

## STM32F302VBT6
designator U?
ARM Cortex-M4 32-bit MCU, 128 KB Flash, 24 KB Internal RAM, 87 I/Os, 100-pin LQFP, -40 to 85 degC, Tray
footprint STM-LQFP100_N (Thin QFP, 100-Leads, Body 14x14mm, Pitch 0.5mm, IPC Medium Density)
footprint STM-LQFP100_L (Thin QFP, 100-Leads, Body 14x14mm, Pitch 0.5mm, IPC High Density)
footprint STM-LQFP100_M (Thin QFP, 100-Leads, Body 14x14mm, Pitch 0.5mm, IPC Low Density)
footprint STM-LQFP100_V (Thin QFP, 100-Leads, Body 14x14mm, Pitch 0.5mm, ST Recommended)
part A pins: 1 PE2 (io) "PE2/TRACECK,TIM3_CH1,TSC_G7_IO1,EVENTOUT", 2 PE3 (io) "PE3/TRACED0,TIM3_CH2,TSC_G7_IO2,EVENTOUT", 3 PE4 (io) "PE4/TRACED1,TIM3_CH3,TSC_G7_IO3,EVENTOUT", 4 PE5 (io) "PE5/TRACED2,TIM3_CH4,TSC_G7_IO4,EVENTOUT", 5 PE6 (io) "PE6/TRACED3,EVENTOUT/WKUP3,RTC_TAMP3", 7 PC13 (io) "PC13/TIM1_CH1N/WKUP2,RTC_TAMP1,RTC_TS,RTC_OUT", 8 PC14-OSC32_IN(PC14) (io) "PC14-OSC32_IN(PC14)/OSC32_IN", 9 PC15-OSC32_OUT(PC15) (io) "PC15-OSC32_OUT(PC15)/OSC32_OUT", 10 PF9 (io) "PF9/TIM15_CH1,SPI2_SCK,EVENTOUT", 11 PF10 (io) "PF10/TIM15_CH2,SPI2_SCK,EVENTOUT", 12 PF0-OSC_IN(PF0) (io) "PF0-OSC_IN(PF0)/TIM1_CH3N,I2C2_SDA/OSC_IN", 13 PF1-OSC_OUT(PF1) (io) "PF1-OSC_OUT(PF1)/I2C2_SCL/OSC_OUT", 14 NRST (io) "Device reset input / internal reset output (active low)", 15 PC0 (io) "PC0/EVENTOUT/ADC12_IN6", 16 PC1 (io) "PC1/EVENTOUT/ADC12_IN7", 17 PC2 (io) "PC2/EVENTOUT/ADC12_IN8", 18 PC3 (io) "PC3/TIM1_BKIN2,EVENTOUT/ADC12_IN9", 19 PF2 (io) "PF2/EVENTOUT/ADC12_IN10", 23 PA0 (io) "PA0/USART2_CTS,TIM2_CH1_ETR,TSC_G1_IO1,COMP1_OUT,EVENTOUT/ADC1_IN1,COMP1_INM,RTC_TAMP2,WKUP1", 24 PA1 (io) "PA1/USART2_RTS,TIM2_CH2,TSC_G1_IO2,TIM15_CH1N,RTC_REFIN,EVENTOUT/ADC1_IN2,COMP1_INP,OPAMP1_VINP", 25 PA2 (io) "PA2/USART2_TX,TIM2_CH3,TIM15_CH1,TSC_G1_IO3,COMP2_OUT,EVENTOUT/ADC1_IN3,COMP2_INM,OPAMP1_VOUT", 26 PA3 (io) "PA3/USART2_RX,TIM2_CH4,TIM15_CH2,TSC_G1_IO4,EVENTOUT/ADC1_IN4,OPAMP1_VINP,COMP2_INP,OPAMP1_VINM", 27 PF4 (io) "PF4/COMP1_OUT,EVENTOUT/ADC1_IN5", 29 PA4 (io) "PA4/SPI1_NSS,SPI3_NSS,USART2_CK,TSC_G2_IO1,TIM3_CH2,EVENTOUT/ADC2_IN1,DAC1_OUT1,COMP1_INM,COMP2_INM,COMP4_INM,COMP6_INM", 30 PA5 (io) "PA5/SPI1_SCK,TIM2_CH1_ETR,TSC_G2_IO2,EVENTOUT/ADC2_IN2,OPAMP1_VINP,OPAMP2_VINM,COMP1_INM,COMP2_INM,COMP4_INM,COMP6_INM", 31 PA6 (io) "PA6/SPI1_MISO,TIM3_CH1,TIM1_BKIN,TIM16_CH1,COMP1_OUT,TSC_G2_IO3,EVENTOUT/ADC2_IN3,OPAMP2_VOUT", 32 PA7 (io) "PA7/SPI1_MOSI,TIM3_CH2,TIM17_CH1,TIM1_CH1N,TSC_G2_IO4,COMP2_OUT,EVENTOUT/ADC2_IN4,COMP2_INP,OPAMP2_VINP,OPAMP1_VINP", 33 PC4 (io) "PC4/USART1_TX,EVENTOUT/ADC2_IN5", 34 PC5 (io) "PC5/USART1_RX,TSC_G3_IO1,EVENTOUT/ADC2_IN11,OPAMP2_VINM,OPAMP1_VINM", 35 PB0 (io) "PB0/TIM3_CH3,TIM1_CH2N,TSC_G3_IO2,EVENTOUT/COMP4_INP,OPAMP2_VINP", 36 PB1 (io) "PB1/TIM3_CH4,TIM1_CH3N,COMP4_OUT,TSC_G3_IO3,EVENTOUT", 37 PB2 (io) "PB2/TSC_G3_IO4,EVENTOUT/ADC2_IN12,COMP4_INM", 38 PE7 (io) "PE7/TIM1_ETR,EVENTOUT/COMP4_INP", 39 PE8 (io) "PE8/TIM1_CH1N,EVENTOUT/COMP4_INM", 40 PE9 (io) "PE9/TIM1_CH1,EVENTOUT", 41 PE10 (io) "PE10/TIM1_CH2N,EVENTOUT", 42 PE11 (io) "PE11/TIM1_CH2,EVENTOUT", 43 PE12 (io) "PE12/TIM1_CH3N,EVENTOUT", 44 PE13 (io) "PE13/TIM1_CH3,EVENTOUT", 45 PE14 (io) "PE14/TIM1_CH4,TIM1_BKIN2,EVENTOUT", 46 PE15 (io) "PE15/USART3_RX,TIM1_BKIN,EVENTOUT", 47 PB10 (io) "PB10/USART3_TX,TIM2_CH3,TSC_SYNC,EVENTOUT", 48 PB11 (io) "PB11/USART3_RX,TIM2_CH4,TSC_G6_IO1,EVENTOUT/COMP6_INP", 51 PB12 (io) "PB12/SPI2_NSS,I2C2_SMBA,USART3_CK,TIM1_BKIN,TSC_G6_IO2,EVENTOUT", 52 PB13 (io) "PB13/SPI2_SCK,USART3_CTS,TIM1_CH1N,TSC_G6_IO3,EVENTOUT", 53 PB14 (io) "PB14/SPI2_MISO,USART3_RTS,TIM1_CH2N,TIM15_CH1,TSC_G6_IO4,EVENTOUT/OPAMP2_VINP", 54 PB15 (io) "PB15/SPI2_MOSI,TIM1_CH3N,RTC_REFIN,TIM15_CH1N,TIM15_CH2,EVENTOUT/COMP6_INM", 55 PD8 (io) "PD8/USART3_TX,EVENTOUT", 56 PD9 (io) "PD9/USART3_RX,EVENTOUT", 57 PD10 (io) "PD10/USART3_CK,EVENTOUT/COMP6_INM", 58 PD11 (io) "PD11/USART3_CTS,EVENTOUT/COMP6_INP", 59 PD12 (io) "PD12/USART3_RTS,TIM4_CH1,TSC_G8_IO1,EVENTOUT", 60 PD13 (io) "PD13/TIM4_CH2,TSC_G8_IO2,EVENTOUT", 61 PD14 (io) "PD14/TIM4_CH3,TSC_G8_IO3,EVENTOUT/OPAMP2_VINP", 62 PD15 (io) "PD15/SPI2_NSS,TIM4_CH4,TSC_G8_IO4,EVENTOUT", 63 PC6 (io) "PC6/COMP6_OUT,TIM3_CH1,EVENTOUT", 64 PC7 (io) "PC7/TIM3_CH2,EVENTOUT", 65 PC8 (io) "PC8/TIM3_CH3,EVENTOUT", 66 PC9 (io) "PC9/TIM3_CH4,EVENTOUT", 67 PA8 (io) "PA8/I2C2_SMBA,USART1_CK,TIM1_CH1,TIM4_ETR,MCO,EVENTOUT", 68 PA9 (io) "PA9/I2C2_SCL,USART1_TX,TIM1_CH2,TIM2_CH3,TIM15_BKIN,TSC_G4_IO1,EVENTOUT", 69 PA10 (io) "PA10/I2C2_SDA,USART1_RX,TIM1_CH3,TIM2_CH4,TIM17_BKIN,TSC_G4_IO2,COMP6_OUT,EVENTOUT", 70 PA11 (io) "PA11/USART1_CTS,USB_DM,CAN_RX,TIM1_CH1N,TIM1_CH4,TIM1_BKIN2,TIM4_CH1,COMP1_OUT,EVENTOUT", 71 PA12 (io) "PA12/USART1_RTS,USB_DP,CAN_TX,TIM1_CH2N,TIM1_ETR,TIM4_CH2,TIM16_CH1,COMP2_OUT,EVENTOUT", 72 PA13 (io) "PA13/USART3_CTS,TIM4_CH3,TIM16_CH1N,TSC_G4_IO3,IR_OUT,SWDIO-JTMS,EVENTOUT", 73 PF6 (io) "PF6/I2C2_SCL,USART3_RTS,TIM4_CH4,EVENTOUT", 76 PA14 (io) "PA14/I2C1_SDA,USART2_TX,TIM1_BKIN,TSC_G4_IO4,SWCLK-JTCK,EVENTOUT", 77 PA15 (io) "PA15/I2C1_SCL,SPI1_NSS,SPI3_NSS,JTDI,USART2_RX,TIM1_BKIN,TIM2_CH1_ETR,EVENTOUT", 78 PC10 (io) "PC10/SPI3_SCK,USART3_TX,UART4_TX,EVENTOUT", 79 PC11 (io) "PC11/SPI3_MISO,USART3_RX,UART4_RX,EVENTOUT", 80 PC12 (io) "PC12/SPI3_MOSI,USART3_CK,UART5_TX,EVENTOUT", 81 PD0 (io) "PD0/CAN_RX,EVENTOUT", 82 PD1 (io) "PD1/CAN_TX,EVENTOUT", 83 PD2 (io) "PD2/UART5_RX,TIM3_ETR,EVENTOUT", 84 PD3 (io) "PD3/USART2_CTS,TIM2_CH1_ETR,EVENTOUT", 85 PD4 (io) "PD4/USART2_RTS,TIM2_CH2,EVENTOUT", 86 PD5 (io) "PD5/USART2_TX,EVENTOUT", 87 PD6 (io) "PD6/USART2_RX,TIM2_CH4,EVENTOUT", 88 PD7 (io) "PD7/USART2_CK,TIM2_CH3,EVENTOUT", 89 PB3 (io) "PB3/SPI3_SCK,SPI1_SCK,USART2_TX,TIM2_CH2,TIM3_ETR,TIM4_ETR,TSC_G5_IO1,JTDO-TRACESWO,EVENTOUT", 90 PB4 (io) "PB4/SPI3_MISO,SPI1_MISO,USART2_RX,TIM3_CH1,TIM16_CH1,TIM17_BKIN,TSC_G5_IO2,NJTRST,EVENTOUT", 91 PB5 (io) "PB5/SPI3_MOSI,SPI1_MOSI,I2C1_SMBA,USART2_CK,TIM16_BKIN,TIM3_CH2,TIM17_CH1,EVENTOUT", 92 PB6 (io) "PB6/I2C1_SCL,USART1_TX,TIM16_CH1N,TIM4_CH1,TSC_G5_IO3,EVENTOUT", 93 PB7 (io) "PB7/I2C1_SDA,USART1_RX,TIM3_CH4,TIM4_CH2,TIM17_CH1N,TSC_G5_IO4,EVENTOUT", 94 BOOT0 (in) "Boot memory selection", 95 PB8 (io) "PB8/I2C1_SCL,CAN_RX,TIM16_CH1,TIM4_CH3,TIM1_BKIN,TSC_SYNC,COMP1_OUT,EVENTOUT", 96 PB9 (io) "PB9/I2C1_SDA,CAN_TX,TIM17_CH1,TIM4_CH4,IR_OUT,COMP2_OUT,EVENTOUT", 97 PE0 (io) "PE0/USART1_TX,TIM4_ETR,TIM16_CH1,EVENTOUT", 98 PE1 (io) "PE1/USART1_RX,TIM17_CH1,EVENTOUT"
part B pins: 6 VBAT (power) "Backup power supply", 20 VSSA/VREF- (power) "Analog ground/Negative reference voltage", 21 VREF+ (power) "Positive reference voltage", 22 VDDA (power) "Analog power supply", 28 VDD_4 (power) "Digital power supply", 49 VSS_2 (power) "Digital ground", 50 VDD_2 (power) "Digital power supply", 74 VSS_3 (power) "Ground", 75 VDD_3 (power) "Digital power supply", 99 VSS_1 (power) "Ground", 100 VDD_1 (power) "Digital power supply"

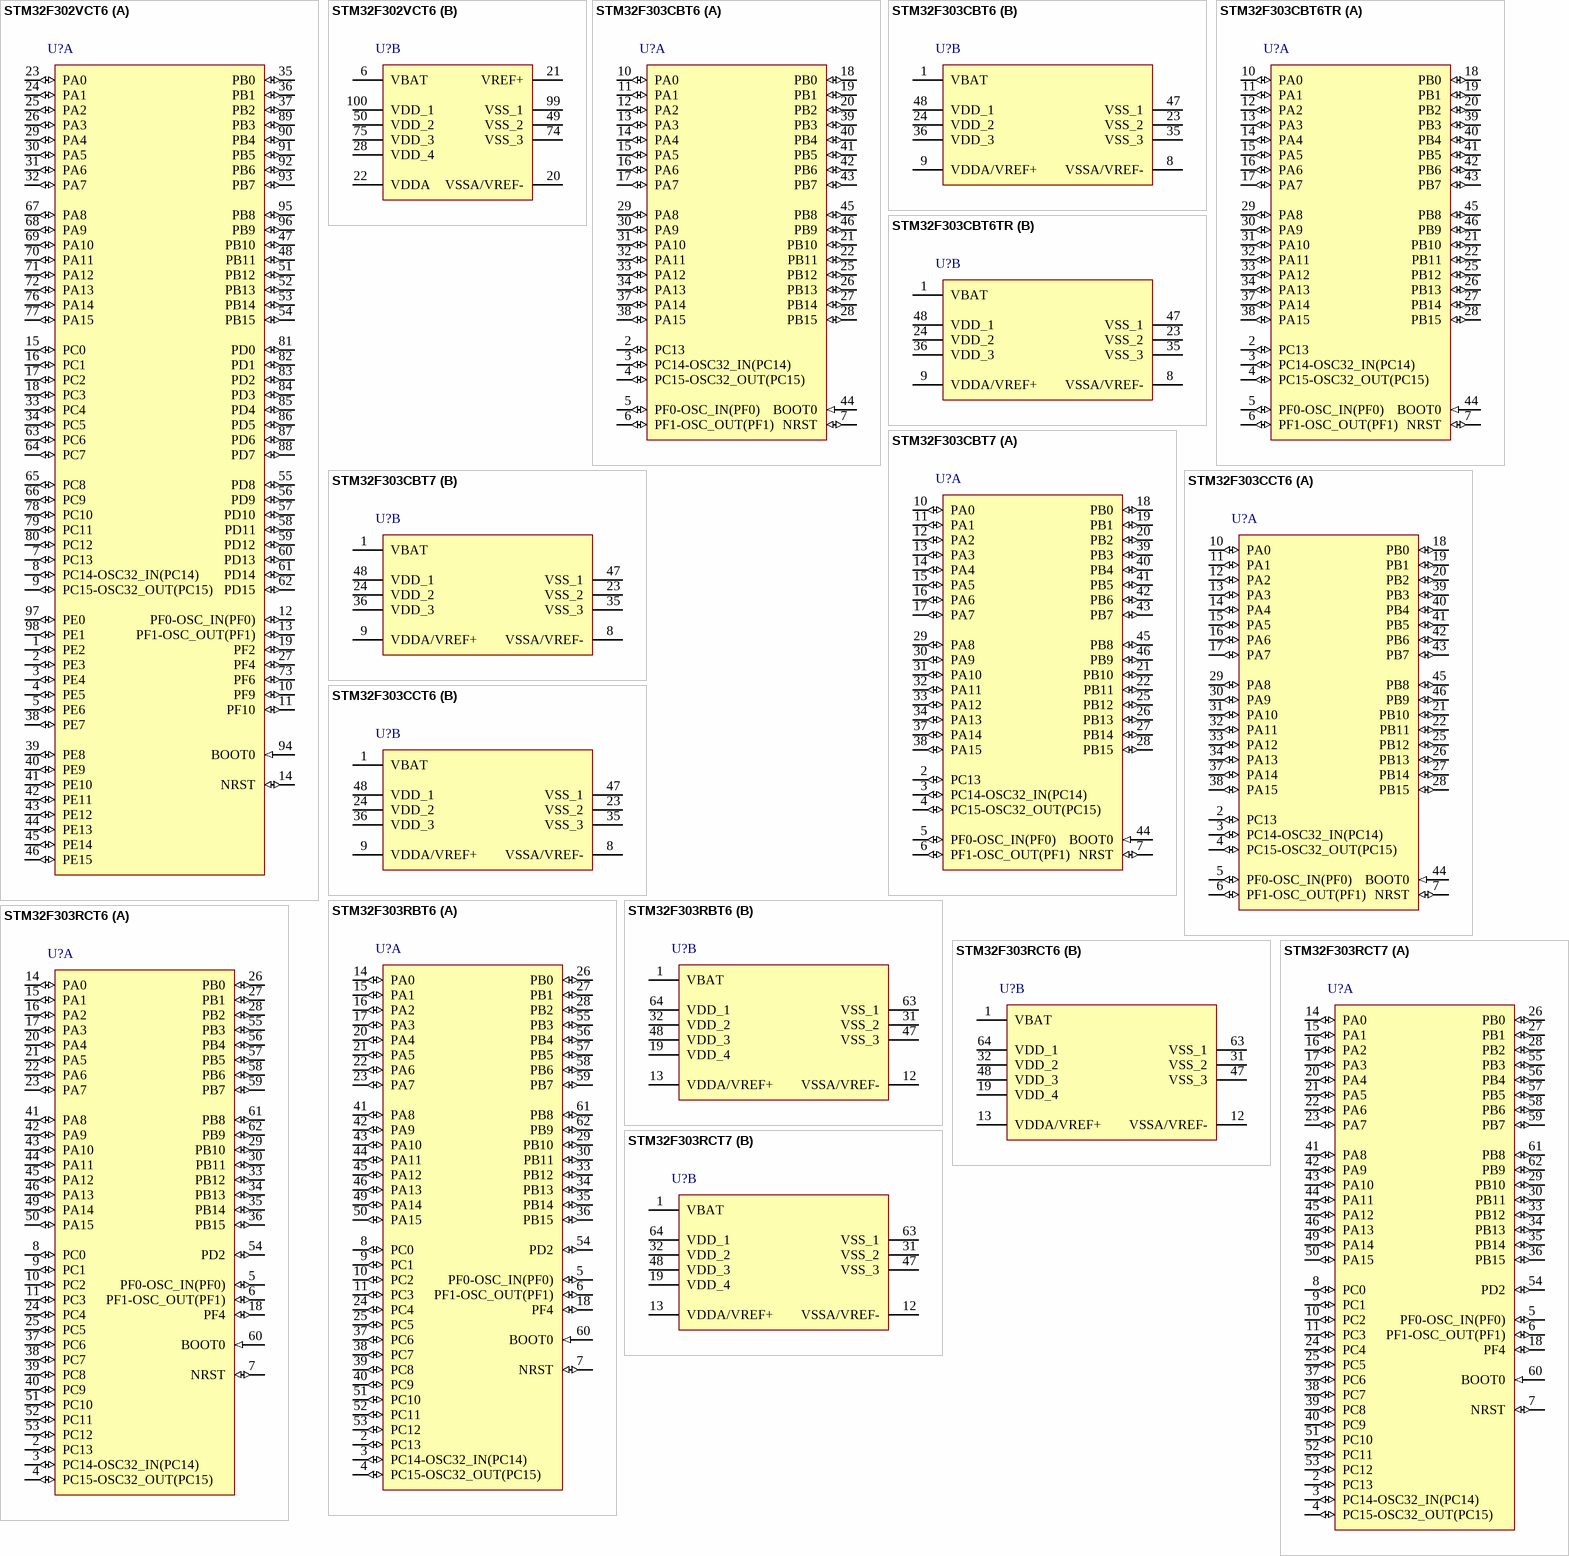
[diagram p1: symbols STM32F302VCT6 to STM32F303RCT7]

## STM32F302VCT6
designator U?
ARM Cortex-M4 32-bit MCU, 256 KB Flash, 32 KB Internal RAM, 87 I/Os, 100-pin LQFP, -40 to 85 degC, Tray
footprint STM-LQFP100_N (Thin QFP, 100-Leads, Body 14x14mm, Pitch 0.5mm, IPC Medium Density)
footprint STM-LQFP100_L (Thin QFP, 100-Leads, Body 14x14mm, Pitch 0.5mm, IPC High Density)
footprint STM-LQFP100_M (Thin QFP, 100-Leads, Body 14x14mm, Pitch 0.5mm, IPC Low Density)
footprint STM-LQFP100_V (Thin QFP, 100-Leads, Body 14x14mm, Pitch 0.5mm, ST Recommended)
part A pins: 1 PE2 (io) "PE2/TRACECK,TIM3_CH1,TSC_G7_IO1,EVENTOUT", 2 PE3 (io) "PE3/TRACED0,TIM3_CH2,TSC_G7_IO2,EVENTOUT", 3 PE4 (io) "PE4/TRACED1,TIM3_CH3,TSC_G7_IO3,EVENTOUT", 4 PE5 (io) "PE5/TRACED2,TIM3_CH4,TSC_G7_IO4,EVENTOUT", 5 PE6 (io) "PE6/TRACED3,EVENTOUT/WKUP3,RTC_TAMP3", 7 PC13 (io) "PC13/TIM1_CH1N/WKUP2,RTC_TAMP1,RTC_TS,RTC_OUT", 8 PC14-OSC32_IN(PC14) (io) "PC14-OSC32_IN(PC14)/OSC32_IN", 9 PC15-OSC32_OUT(PC15) (io) "PC15-OSC32_OUT(PC15)/OSC32_OUT", 10 PF9 (io) "PF9/TIM15_CH1,SPI2_SCK,EVENTOUT", 11 PF10 (io) "PF10/TIM15_CH2,SPI2_SCK,EVENTOUT", 12 PF0-OSC_IN(PF0) (io) "PF0-OSC_IN(PF0)/TIM1_CH3N,I2C2_SDA/OSC_IN", 13 PF1-OSC_OUT(PF1) (io) "PF1-OSC_OUT(PF1)/I2C2_SCL/OSC_OUT", 14 NRST (io) "Device reset input / internal reset output (active low)", 15 PC0 (io) "PC0/EVENTOUT/ADC12_IN6", 16 PC1 (io) "PC1/EVENTOUT/ADC12_IN7", 17 PC2 (io) "PC2/EVENTOUT/ADC12_IN8", 18 PC3 (io) "PC3/TIM1_BKIN2,EVENTOUT/ADC12_IN9", 19 PF2 (io) "PF2/EVENTOUT/ADC12_IN10", 23 PA0 (io) "PA0/USART2_CTS,TIM2_CH1_ETR,TSC_G1_IO1,COMP1_OUT,EVENTOUT/ADC1_IN1,COMP1_INM,RTC_TAMP2,WKUP1", 24 PA1 (io) "PA1/USART2_RTS,TIM2_CH2,TSC_G1_IO2,TIM15_CH1N,RTC_REFIN,EVENTOUT/ADC1_IN2,COMP1_INP,OPAMP1_VINP", 25 PA2 (io) "PA2/USART2_TX,TIM2_CH3,TIM15_CH1,TSC_G1_IO3,COMP2_OUT,EVENTOUT/ADC1_IN3,COMP2_INM,OPAMP1_VOUT", 26 PA3 (io) "PA3/USART2_RX,TIM2_CH4,TIM15_CH2,TSC_G1_IO4,EVENTOUT/ADC1_IN4,OPAMP1_VINP,COMP2_INP,OPAMP1_VINM", 27 PF4 (io) "PF4/COMP1_OUT,EVENTOUT/ADC1_IN5", 29 PA4 (io) "PA4/SPI1_NSS,SPI3_NSS,USART2_CK,TSC_G2_IO1,TIM3_CH2,EVENTOUT/ADC2_IN1,DAC1_OUT1,COMP1_INM,COMP2_INM,COMP4_INM,COMP6_INM", 30 PA5 (io) "PA5/SPI1_SCK,TIM2_CH1_ETR,TSC_G2_IO2,EVENTOUT/ADC2_IN2,OPAMP1_VINP,OPAMP2_VINM,COMP1_INM,COMP2_INM,COMP4_INM,COMP6_INM", 31 PA6 (io) "PA6/SPI1_MISO,TIM3_CH1,TIM1_BKIN,TIM16_CH1,COMP1_OUT,TSC_G2_IO3,EVENTOUT/ADC2_IN3,OPAMP2_VOUT", 32 PA7 (io) "PA7/SPI1_MOSI,TIM3_CH2,TIM17_CH1,TIM1_CH1N,TSC_G2_IO4,COMP2_OUT,EVENTOUT/ADC2_IN4,COMP2_INP,OPAMP2_VINP,OPAMP1_VINP", 33 PC4 (io) "PC4/USART1_TX,EVENTOUT/ADC2_IN5", 34 PC5 (io) "PC5/USART1_RX,TSC_G3_IO1,EVENTOUT/ADC2_IN11,OPAMP2_VINM,OPAMP1_VINM", 35 PB0 (io) "PB0/TIM3_CH3,TIM1_CH2N,TSC_G3_IO2,EVENTOUT/COMP4_INP,OPAMP2_VINP", 36 PB1 (io) "PB1/TIM3_CH4,TIM1_CH3N,COMP4_OUT,TSC_G3_IO3,EVENTOUT", 37 PB2 (io) "PB2/TSC_G3_IO4,EVENTOUT/ADC2_IN12,COMP4_INM", 38 PE7 (io) "PE7/TIM1_ETR,EVENTOUT/COMP4_INP", 39 PE8 (io) "PE8/TIM1_CH1N,EVENTOUT/COMP4_INM", 40 PE9 (io) "PE9/TIM1_CH1,EVENTOUT", 41 PE10 (io) "PE10/TIM1_CH2N,EVENTOUT", 42 PE11 (io) "PE11/TIM1_CH2,EVENTOUT", 43 PE12 (io) "PE12/TIM1_CH3N,EVENTOUT", 44 PE13 (io) "PE13/TIM1_CH3,EVENTOUT", 45 PE14 (io) "PE14/TIM1_CH4,TIM1_BKIN2,EVENTOUT", 46 PE15 (io) "PE15/USART3_RX,TIM1_BKIN,EVENTOUT", 47 PB10 (io) "PB10/USART3_TX,TIM2_CH3,TSC_SYNC,EVENTOUT", 48 PB11 (io) "PB11/USART3_RX,TIM2_CH4,TSC_G6_IO1,EVENTOUT/COMP6_INP", 51 PB12 (io) "PB12/SPI2_NSS,I2C2_SMBA,USART3_CK,TIM1_BKIN,TSC_G6_IO2,EVENTOUT", 52 PB13 (io) "PB13/SPI2_SCK,USART3_CTS,TIM1_CH1N,TSC_G6_IO3,EVENTOUT", 53 PB14 (io) "PB14/SPI2_MISO,USART3_RTS,TIM1_CH2N,TIM15_CH1,TSC_G6_IO4,EVENTOUT/OPAMP2_VINP", 54 PB15 (io) "PB15/SPI2_MOSI,TIM1_CH3N,RTC_REFIN,TIM15_CH1N,TIM15_CH2,EVENTOUT/COMP6_INM", 55 PD8 (io) "PD8/USART3_TX,EVENTOUT", 56 PD9 (io) "PD9/USART3_RX,EVENTOUT", 57 PD10 (io) "PD10/USART3_CK,EVENTOUT/COMP6_INM", 58 PD11 (io) "PD11/USART3_CTS,EVENTOUT/COMP6_INP", 59 PD12 (io) "PD12/USART3_RTS,TIM4_CH1,TSC_G8_IO1,EVENTOUT", 60 PD13 (io) "PD13/TIM4_CH2,TSC_G8_IO2,EVENTOUT", 61 PD14 (io) "PD14/TIM4_CH3,TSC_G8_IO3,EVENTOUT/OPAMP2_VINP", 62 PD15 (io) "PD15/SPI2_NSS,TIM4_CH4,TSC_G8_IO4,EVENTOUT", 63 PC6 (io) "PC6/COMP6_OUT,TIM3_CH1,EVENTOUT", 64 PC7 (io) "PC7/TIM3_CH2,EVENTOUT", 65 PC8 (io) "PC8/TIM3_CH3,EVENTOUT", 66 PC9 (io) "PC9/TIM3_CH4,EVENTOUT", 67 PA8 (io) "PA8/I2C2_SMBA,USART1_CK,TIM1_CH1,TIM4_ETR,MCO,EVENTOUT", 68 PA9 (io) "PA9/I2C2_SCL,USART1_TX,TIM1_CH2,TIM2_CH3,TIM15_BKIN,TSC_G4_IO1,EVENTOUT", 69 PA10 (io) "PA10/I2C2_SDA,USART1_RX,TIM1_CH3,TIM2_CH4,TIM17_BKIN,TSC_G4_IO2,COMP6_OUT,EVENTOUT", 70 PA11 (io) "PA11/USART1_CTS,USB_DM,CAN_RX,TIM1_CH1N,TIM1_CH4,TIM1_BKIN2,TIM4_CH1,COMP1_OUT,EVENTOUT", 71 PA12 (io) "PA12/USART1_RTS,USB_DP,CAN_TX,TIM1_CH2N,TIM1_ETR,TIM4_CH2,TIM16_CH1,COMP2_OUT,EVENTOUT", 72 PA13 (io) "PA13/USART3_CTS,TIM4_CH3,TIM16_CH1N,TSC_G4_IO3,IR_OUT,SWDIO-JTMS,EVENTOUT", 73 PF6 (io) "PF6/I2C2_SCL,USART3_RTS,TIM4_CH4,EVENTOUT", 76 PA14 (io) "PA14/I2C1_SDA,USART2_TX,TIM1_BKIN,TSC_G4_IO4,SWCLK-JTCK,EVENTOUT", 77 PA15 (io) "PA15/I2C1_SCL,SPI1_NSS,SPI3_NSS,JTDI,USART2_RX,TIM1_BKIN,TIM2_CH1_ETR,EVENTOUT", 78 PC10 (io) "PC10/SPI3_SCK,USART3_TX,UART4_TX,EVENTOUT", 79 PC11 (io) "PC11/SPI3_MISO,USART3_RX,UART4_RX,EVENTOUT", 80 PC12 (io) "PC12/SPI3_MOSI,USART3_CK,UART5_TX,EVENTOUT", 81 PD0 (io) "PD0/CAN_RX,EVENTOUT", 82 PD1 (io) "PD1/CAN_TX,EVENTOUT", 83 PD2 (io) "PD2/UART5_RX,TIM3_ETR,EVENTOUT", 84 PD3 (io) "PD3/USART2_CTS,TIM2_CH1_ETR,EVENTOUT", 85 PD4 (io) "PD4/USART2_RTS,TIM2_CH2,EVENTOUT", 86 PD5 (io) "PD5/USART2_TX,EVENTOUT", 87 PD6 (io) "PD6/USART2_RX,TIM2_CH4,EVENTOUT", 88 PD7 (io) "PD7/USART2_CK,TIM2_CH3,EVENTOUT", 89 PB3 (io) "PB3/SPI3_SCK,SPI1_SCK,USART2_TX,TIM2_CH2,TIM3_ETR,TIM4_ETR,TSC_G5_IO1,JTDO-TRACESWO,EVENTOUT", 90 PB4 (io) "PB4/SPI3_MISO,SPI1_MISO,USART2_RX,TIM3_CH1,TIM16_CH1,TIM17_BKIN,TSC_G5_IO2,NJTRST,EVENTOUT", 91 PB5 (io) "PB5/SPI3_MOSI,SPI1_MOSI,I2C1_SMBA,USART2_CK,TIM16_BKIN,TIM3_CH2,TIM17_CH1,EVENTOUT", 92 PB6 (io) "PB6/I2C1_SCL,USART1_TX,TIM16_CH1N,TIM4_CH1,TSC_G5_IO3,EVENTOUT", 93 PB7 (io) "PB7/I2C1_SDA,USART1_RX,TIM3_CH4,TIM4_CH2,TIM17_CH1N,TSC_G5_IO4,EVENTOUT", 94 BOOT0 (in) "Boot memory selection", 95 PB8 (io) "PB8/I2C1_SCL,CAN_RX,TIM16_CH1,TIM4_CH3,TIM1_BKIN,TSC_SYNC,COMP1_OUT,EVENTOUT", 96 PB9 (io) "PB9/I2C1_SDA,CAN_TX,TIM17_CH1,TIM4_CH4,IR_OUT,COMP2_OUT,EVENTOUT", 97 PE0 (io) "PE0/USART1_TX,TIM4_ETR,TIM16_CH1,EVENTOUT", 98 PE1 (io) "PE1/USART1_RX,TIM17_CH1,EVENTOUT"
part B pins: 6 VBAT (power) "Backup power supply", 20 VSSA/VREF- (power) "Analog ground/Negative reference voltage", 21 VREF+ (power) "Positive reference voltage", 22 VDDA (power) "Analog power supply", 28 VDD_4 (power) "Digital power supply", 49 VSS_2 (power) "Digital ground", 50 VDD_2 (power) "Digital power supply", 74 VSS_3 (power) "Ground", 75 VDD_3 (power) "Digital power supply", 99 VSS_1 (power) "Ground", 100 VDD_1 (power) "Digital power supply"

## STM32F303CBT6
designator U?
ARM Cortex-M4 32-bit MCU, 128 KB Flash, 32 KB Internal RAM, 37 I/Os, 48-pin LQFP, -40 to 85 degC, Tray
footprint STM-LQFP48_N (QFP, 48-Leads, Body 7x7mm, Pitch 0.5mm, IPC Medium Density)
footprint STM-LQFP48_L (QFP, 48-Leads, Body 7x7mm, Pitch 0.5mm, IPC High Density)
footprint STM-LQFP48_M (QFP, 48-Leads, Body 7x7mm, Pitch 0.5mm, IPC Low Density)
part A pins: 2 PC13 (io) "PC13/TIM1_CH1N/WKUP2,RTC_TAMP1,RTC_TS,RTC_OUT", 3 PC14-OSC32_IN(PC14) (io) "PC14-OSC32_IN(PC14)/OSC32_IN", 4 PC15-OSC32_OUT(PC15) (io) "PC15-OSC32_OUT(PC15)/OSC32_OUT", 5 PF0-OSC_IN(PF0) (io) "PF0-OSC_IN(PF0)/TIM1_CH3N,I2C2_SDA/OSC_IN", 6 PF1-OSC_OUT(PF1) (io) "PF1-OSC_OUT(PF1)/I2C2_SCL/OSC_OUT", 7 NRST (io) "Device reset input / internal reset output (active low)", 10 PA0 (io) "PA0/USART2_CTS,TIM2_CH1_ETR,TIM8_BKIN,TIM8_ETR,TSC_G1_IO1,COMP1_OUT,EVENTOUT/ADC1_IN1,COMP1_INM,RTC_TAMP2,WKUP1,COMP7_INP", 11 PA1 (io) "PA1/USART2_RTS,TIM2_CH2,TSC_G1_IO2,TIM15_CH1N,RTC_REFIN,EVENTOUT/ADC1_IN2,COMP1_INP,OPAMP1_VINP,OPAMP3_VINP", 12 PA2 (io) "PA2/USART2_TX,TIM2_CH3,TIM15_CH1,TSC_G1_IO3,COMP2_OUT,EVENTOUT/ADC1_IN3,COMP2_INM,OPAMP1_VOUT", 13 PA3 (io) "PA3/USART2_RX,TIM2_CH4,TIM15_CH2,TSC_G1_IO4,EVENTOUT/ADC1_IN4,OPAMP1_VINP,COMP2_INP,OPAMP1_VINM", 14 PA4 (io) "PA4/SPI1_NSS,SPI3_NSS,I2S3_WS,USART2_CK,TSC_G2_IO1,TIM3_CH2,EVENTOUT/ADC2_IN1,DAC1_OUT1,OPAMP4_VINP,COMP1_INM,COMP2_INM,COMP3_INM,COMP4_INM,COMP5_INM,COMP6_INM,COMP7_INM", 15 PA5 (io) "PA5/SPI1_SCK,TIM2_CH1_ETR,TSC_G2_IO2,EVENTOUT/ADC2_IN2,DAC1_OUT2,OPAMP1_VINP,OPAMP2_VINM,OPAMP3_VINP,COMP1_INM,COMP2_INM,COMP3_INM,COMP4_INM,COMP5_INM,COMP6_INM,COMP7_INM", 16 PA6 (io) "PA6/SPI1_MISO,TIM3_CH1,TIM8_BKIN,TIM1_BKIN,TIM16_CH1,COMP1_OUT,TSC_G2_IO3,EVENTOUT/ADC2_IN3,OPAMP2_VOUT", 17 PA7 (io) "PA7/SPI1_MOSI,TIM3_CH2,TIM17_CH1,TIM1_CH1N,TIM8_CH1N,TSC_G2_IO4,COMP2_OUT,EVENTOUT/ADC2_IN4,COMP2_INP,OPAMP2_VINP,OPAMP1_VINP", 18 PB0 (io) "PB0/TIM3_CH3,TIM1_CH2N,TIM8_CH2N,TSC_G3_IO2,EVENTOUT/ADC3_IN12,COMP4_INP,OPAMP3_VINP,OPAMP2_VINP", 19 PB1 (io) "PB1/TIM3_CH4,TIM1_CH3N,TIM8_CH3N,COMP4_OUT,TSC_G3_IO3,EVENTOUT/ADC3_IN1,OPAMP3_VOUT", 20 PB2 (io) "PB2/TSC_G3_IO4,EVENTOUT/ADC2_IN12,COMP4_INM,OPAMP3_VINM", 21 PB10 (io) "PB10/USART3_TX,TIM2_CH3,TSC_SYNC,EVENTOUT/COMP5_INM,OPAMP4_VINM,OPAMP3_VINM", 22 PB11 (io) "PB11/USART3_RX,TIM2_CH4,TSC_G6_IO1,EVENTOUT/COMP6_INP,OPAMP4_VINP", 25 PB12 (io) "PB12/SPI2_NSS,I2S2_WS,I2C2_SMBA,USART3_CK,TIM1_BKIN,TSC_G6_IO2,EVENTOUT/ADC4_IN3,COMP3_INM,OPAMP4_VOUT", 26 PB13 (io) "PB13/SPI2_SCK,I2S2_CK,USART3_CTS,TIM1_CH1N,TSC_G6_IO3,EVENTOUT/ADC3_IN5,COMP5_INP,OPAMP4_VINP,OPAMP3_VINP", 27 PB14 (io) "PB14/SPI2_MISO,I2S2ext_SD,USART3_RTS,TIM1_CH2N,TIM15_CH1,TSC_G6_IO4,EVENTOUT/COMP3_INP,ADC4_IN4,OPAMP2_VINP", 28 PB15 (io) "PB15/SPI2_MOSI,I2S2_SD,TIM1_CH3N,RTC_REFIN,TIM15_CH1N,TIM15_CH2,EVENTOUT/ADC4_IN5,COMP6_INM", 29 PA8 (io) "PA8/I2C2_SMBA,I2S2_MCK,USART1_CK,TIM1_CH1,TIM4_ETR,MCO,COMP3_OUT,EVENTOUT", 30 PA9 (io) "PA9/I2C2_SCL,I2S3_MCK,USART1_TX,TIM1_CH2,TIM2_CH3,TIM15_BKIN,TSC_G4_IO1,COMP5_OUT,EVENTOUT", 31 PA10 (io) "PA10/I2C2_SDA,USART1_RX,TIM1_CH3,TIM2_CH4,TIM8_BKIN,TIM17_BKIN,TSC_G4_IO2,COMP6_OUT,EVENTOUT", 32 PA11 (io) "PA11/USART1_CTS,USB_DM,CAN_RX,TIM1_CH1N,TIM1_CH4,TIM1_BKIN2,TIM4_CH1,COMP1_OUT,EVENTOUT", 33 PA12 (io) "PA12/USART1_RTS,USB_DP,CAN_TX,TIM1_CH2N,TIM1_ETR,TIM4_CH2,TIM16_CH1,COMP2_OUT,EVENTOUT", 34 PA13 (io) "PA13/USART3_CTS,TIM4_CH3,TIM16_CH1N,TSC_G4_IO3,IR_OUT,SWDIO-JTMS,EVENTOUT", 37 PA14 (io) "PA14/I2C1_SDA,USART2_TX,TIM8_CH2,TIM1_BKIN,TSC_G4_IO4,SWCLK-JTCK,EVENTOUT", 38 PA15 (io) "PA15/I2C1_SCL,SPI1_NSS,SPI3_NSS,I2S3_WS,JTDI,USART2_RX,TIM1_BKIN,TIM2_CH1_ETR,TIM8_CH1,EVENTOUT", 39 PB3 (io) "PB3/SPI3_SCK,I2S3_CK,SPI1_SCK,USART2_TX,TIM2_CH2,TIM3_ETR,TIM4_ETR,TIM8_CH1N,TSC_G5_IO1,JTDO-TRACESWO,EVENTOUT", 40 PB4 (io) "PB4/SPI3_MISO,I2S3ext_SD,SPI1_MISO,USART2_RX,TIM3_CH1,TIM16_CH1,TIM17_BKIN,TIM8_CH2N,TSC_G5_IO2,NJTRST,EVENTOUT", 41 PB5 (io) "PB5/SPI3_MOSI,SPI1_MOSI,I2S3_SD,I2C1_SMBA,USART2_CK,TIM16_BKIN,TIM3_CH2,TIM8_CH3N,TIM17_CH1,EVENTOUT", 42 PB6 (io) "PB6/I2C1_SCL,USART1_TX,TIM16_CH1N,TIM4_CH1,TIM8_CH1,TSC_G5_IO3,TIM8_ETR,TIM8_BKIN2,EVENTOUT", 43 PB7 (io) "PB7/I2C1_SDA,USART1_RX,TIM3_CH4,TIM4_CH2,TIM17_CH1N,TIM8_BKIN,TSC_G5_IO4,EVENTOUT", 44 BOOT0 (in) "Boot memory selection", 45 PB8 (io) "PB8/I2C1_SCL,CAN_RX,TIM16_CH1,TIM4_CH3,TIM8_CH2,TIM1_BKIN,TSC_SYNC,COMP1_OUT,EVENTOUT", 46 PB9 (io) "PB9/I2C1_SDA,CAN_TX,TIM17_CH1,TIM4_CH4,TIM8_CH3,IR_OUT,COMP2_OUT,EVENTOUT"
part B pins: 1 VBAT (power) "Backup power supply", 8 VSSA/VREF- (power) "Analog ground/Negative reference voltage", 9 VDDA/VREF+ (power) "Analog power supply/Positive reference voltage", 23 VSS_2 (power) "Digital power supply", 24 VDD_2 (power) "Digital power supply", 35 VSS_3 (power) "Ground", 36 VDD_3 (power) "Digital power supply", 47 VSS_1 (power) "Ground", 48 VDD_1 (power) "Digital power supply"

## STM32F303CBT6TR
designator U?
ARM Cortex-M4 32-bit MCU, 128 KB Flash, 32 KB Internal RAM, 37 I/Os, 48-pin LQFP, -40 to 85 degC, Tape and Reel
footprint STM-LQFP48_N (QFP, 48-Leads, Body 7x7mm, Pitch 0.5mm, IPC Medium Density)
footprint STM-LQFP48_L (QFP, 48-Leads, Body 7x7mm, Pitch 0.5mm, IPC High Density)
footprint STM-LQFP48_M (QFP, 48-Leads, Body 7x7mm, Pitch 0.5mm, IPC Low Density)
part A pins: 2 PC13 (io) "PC13/TIM1_CH1N/WKUP2,RTC_TAMP1,RTC_TS,RTC_OUT", 3 PC14-OSC32_IN(PC14) (io) "PC14-OSC32_IN(PC14)/OSC32_IN", 4 PC15-OSC32_OUT(PC15) (io) "PC15-OSC32_OUT(PC15)/OSC32_OUT", 5 PF0-OSC_IN(PF0) (io) "PF0-OSC_IN(PF0)/TIM1_CH3N,I2C2_SDA/OSC_IN", 6 PF1-OSC_OUT(PF1) (io) "PF1-OSC_OUT(PF1)/I2C2_SCL/OSC_OUT", 7 NRST (io) "Device reset input / internal reset output (active low)", 10 PA0 (io) "PA0/USART2_CTS,TIM2_CH1_ETR,TIM8_BKIN,TIM8_ETR,TSC_G1_IO1,COMP1_OUT,EVENTOUT/ADC1_IN1,COMP1_INM,RTC_TAMP2,WKUP1,COMP7_INP", 11 PA1 (io) "PA1/USART2_RTS,TIM2_CH2,TSC_G1_IO2,TIM15_CH1N,RTC_REFIN,EVENTOUT/ADC1_IN2,COMP1_INP,OPAMP1_VINP,OPAMP3_VINP", 12 PA2 (io) "PA2/USART2_TX,TIM2_CH3,TIM15_CH1,TSC_G1_IO3,COMP2_OUT,EVENTOUT/ADC1_IN3,COMP2_INM,OPAMP1_VOUT", 13 PA3 (io) "PA3/USART2_RX,TIM2_CH4,TIM15_CH2,TSC_G1_IO4,EVENTOUT/ADC1_IN4,OPAMP1_VINP,COMP2_INP,OPAMP1_VINM", 14 PA4 (io) "PA4/SPI1_NSS,SPI3_NSS,I2S3_WS,USART2_CK,TSC_G2_IO1,TIM3_CH2,EVENTOUT/ADC2_IN1,DAC1_OUT1,OPAMP4_VINP,COMP1_INM,COMP2_INM,COMP3_INM,COMP4_INM,COMP5_INM,COMP6_INM,COMP7_INM", 15 PA5 (io) "PA5/SPI1_SCK,TIM2_CH1_ETR,TSC_G2_IO2,EVENTOUT/ADC2_IN2,DAC1_OUT2,OPAMP1_VINP,OPAMP2_VINM,OPAMP3_VINP,COMP1_INM,COMP2_INM,COMP3_INM,COMP4_INM,COMP5_INM,COMP6_INM,COMP7_INM", 16 PA6 (io) "PA6/SPI1_MISO,TIM3_CH1,TIM8_BKIN,TIM1_BKIN,TIM16_CH1,COMP1_OUT,TSC_G2_IO3,EVENTOUT/ADC2_IN3,OPAMP2_VOUT", 17 PA7 (io) "PA7/SPI1_MOSI,TIM3_CH2,TIM17_CH1,TIM1_CH1N,TIM8_CH1N,TSC_G2_IO4,COMP2_OUT,EVENTOUT/ADC2_IN4,COMP2_INP,OPAMP2_VINP,OPAMP1_VINP", 18 PB0 (io) "PB0/TIM3_CH3,TIM1_CH2N,TIM8_CH2N,TSC_G3_IO2,EVENTOUT/ADC3_IN12,COMP4_INP,OPAMP3_VINP,OPAMP2_VINP", 19 PB1 (io) "PB1/TIM3_CH4,TIM1_CH3N,TIM8_CH3N,COMP4_OUT,TSC_G3_IO3,EVENTOUT/ADC3_IN1,OPAMP3_VOUT", 20 PB2 (io) "PB2/TSC_G3_IO4,EVENTOUT/ADC2_IN12,COMP4_INM,OPAMP3_VINM", 21 PB10 (io) "PB10/USART3_TX,TIM2_CH3,TSC_SYNC,EVENTOUT/COMP5_INM,OPAMP4_VINM,OPAMP3_VINM", 22 PB11 (io) "PB11/USART3_RX,TIM2_CH4,TSC_G6_IO1,EVENTOUT/COMP6_INP,OPAMP4_VINP", 25 PB12 (io) "PB12/SPI2_NSS,I2S2_WS,I2C2_SMBA,USART3_CK,TIM1_BKIN,TSC_G6_IO2,EVENTOUT/ADC4_IN3,COMP3_INM,OPAMP4_VOUT", 26 PB13 (io) "PB13/SPI2_SCK,I2S2_CK,USART3_CTS,TIM1_CH1N,TSC_G6_IO3,EVENTOUT/ADC3_IN5,COMP5_INP,OPAMP4_VINP,OPAMP3_VINP", 27 PB14 (io) "PB14/SPI2_MISO,I2S2ext_SD,USART3_RTS,TIM1_CH2N,TIM15_CH1,TSC_G6_IO4,EVENTOUT/COMP3_INP,ADC4_IN4,OPAMP2_VINP", 28 PB15 (io) "PB15/SPI2_MOSI,I2S2_SD,TIM1_CH3N,RTC_REFIN,TIM15_CH1N,TIM15_CH2,EVENTOUT/ADC4_IN5,COMP6_INM", 29 PA8 (io) "PA8/I2C2_SMBA,I2S2_MCK,USART1_CK,TIM1_CH1,TIM4_ETR,MCO,COMP3_OUT,EVENTOUT", 30 PA9 (io) "PA9/I2C2_SCL,I2S3_MCK,USART1_TX,TIM1_CH2,TIM2_CH3,TIM15_BKIN,TSC_G4_IO1,COMP5_OUT,EVENTOUT", 31 PA10 (io) "PA10/I2C2_SDA,USART1_RX,TIM1_CH3,TIM2_CH4,TIM8_BKIN,TIM17_BKIN,TSC_G4_IO2,COMP6_OUT,EVENTOUT", 32 PA11 (io) "PA11/USART1_CTS,USB_DM,CAN_RX,TIM1_CH1N,TIM1_CH4,TIM1_BKIN2,TIM4_CH1,COMP1_OUT,EVENTOUT", 33 PA12 (io) "PA12/USART1_RTS,USB_DP,CAN_TX,TIM1_CH2N,TIM1_ETR,TIM4_CH2,TIM16_CH1,COMP2_OUT,EVENTOUT", 34 PA13 (io) "PA13/USART3_CTS,TIM4_CH3,TIM16_CH1N,TSC_G4_IO3,IR_OUT,SWDIO-JTMS,EVENTOUT", 37 PA14 (io) "PA14/I2C1_SDA,USART2_TX,TIM8_CH2,TIM1_BKIN,TSC_G4_IO4,SWCLK-JTCK,EVENTOUT", 38 PA15 (io) "PA15/I2C1_SCL,SPI1_NSS,SPI3_NSS,I2S3_WS,JTDI,USART2_RX,TIM1_BKIN,TIM2_CH1_ETR,TIM8_CH1,EVENTOUT", 39 PB3 (io) "PB3/SPI3_SCK,I2S3_CK,SPI1_SCK,USART2_TX,TIM2_CH2,TIM3_ETR,TIM4_ETR,TIM8_CH1N,TSC_G5_IO1,JTDO-TRACESWO,EVENTOUT", 40 PB4 (io) "PB4/SPI3_MISO,I2S3ext_SD,SPI1_MISO,USART2_RX,TIM3_CH1,TIM16_CH1,TIM17_BKIN,TIM8_CH2N,TSC_G5_IO2,NJTRST,EVENTOUT", 41 PB5 (io) "PB5/SPI3_MOSI,SPI1_MOSI,I2S3_SD,I2C1_SMBA,USART2_CK,TIM16_BKIN,TIM3_CH2,TIM8_CH3N,TIM17_CH1,EVENTOUT", 42 PB6 (io) "PB6/I2C1_SCL,USART1_TX,TIM16_CH1N,TIM4_CH1,TIM8_CH1,TSC_G5_IO3,TIM8_ETR,TIM8_BKIN2,EVENTOUT", 43 PB7 (io) "PB7/I2C1_SDA,USART1_RX,TIM3_CH4,TIM4_CH2,TIM17_CH1N,TIM8_BKIN,TSC_G5_IO4,EVENTOUT", 44 BOOT0 (in) "Boot memory selection", 45 PB8 (io) "PB8/I2C1_SCL,CAN_RX,TIM16_CH1,TIM4_CH3,TIM8_CH2,TIM1_BKIN,TSC_SYNC,COMP1_OUT,EVENTOUT", 46 PB9 (io) "PB9/I2C1_SDA,CAN_TX,TIM17_CH1,TIM4_CH4,TIM8_CH3,IR_OUT,COMP2_OUT,EVENTOUT"
part B pins: 1 VBAT (power) "Backup power supply", 8 VSSA/VREF- (power) "Analog ground/Negative reference voltage", 9 VDDA/VREF+ (power) "Analog power supply/Positive reference voltage", 23 VSS_2 (power) "Digital power supply", 24 VDD_2 (power) "Digital power supply", 35 VSS_3 (power) "Ground", 36 VDD_3 (power) "Digital power supply", 47 VSS_1 (power) "Ground", 48 VDD_1 (power) "Digital power supply"